# Altium schematic symbol library parts.SCHLIB: 122 symbols (part 1 of 2)
Pins are listed as number, name and electrical type; pins without a type are passive.

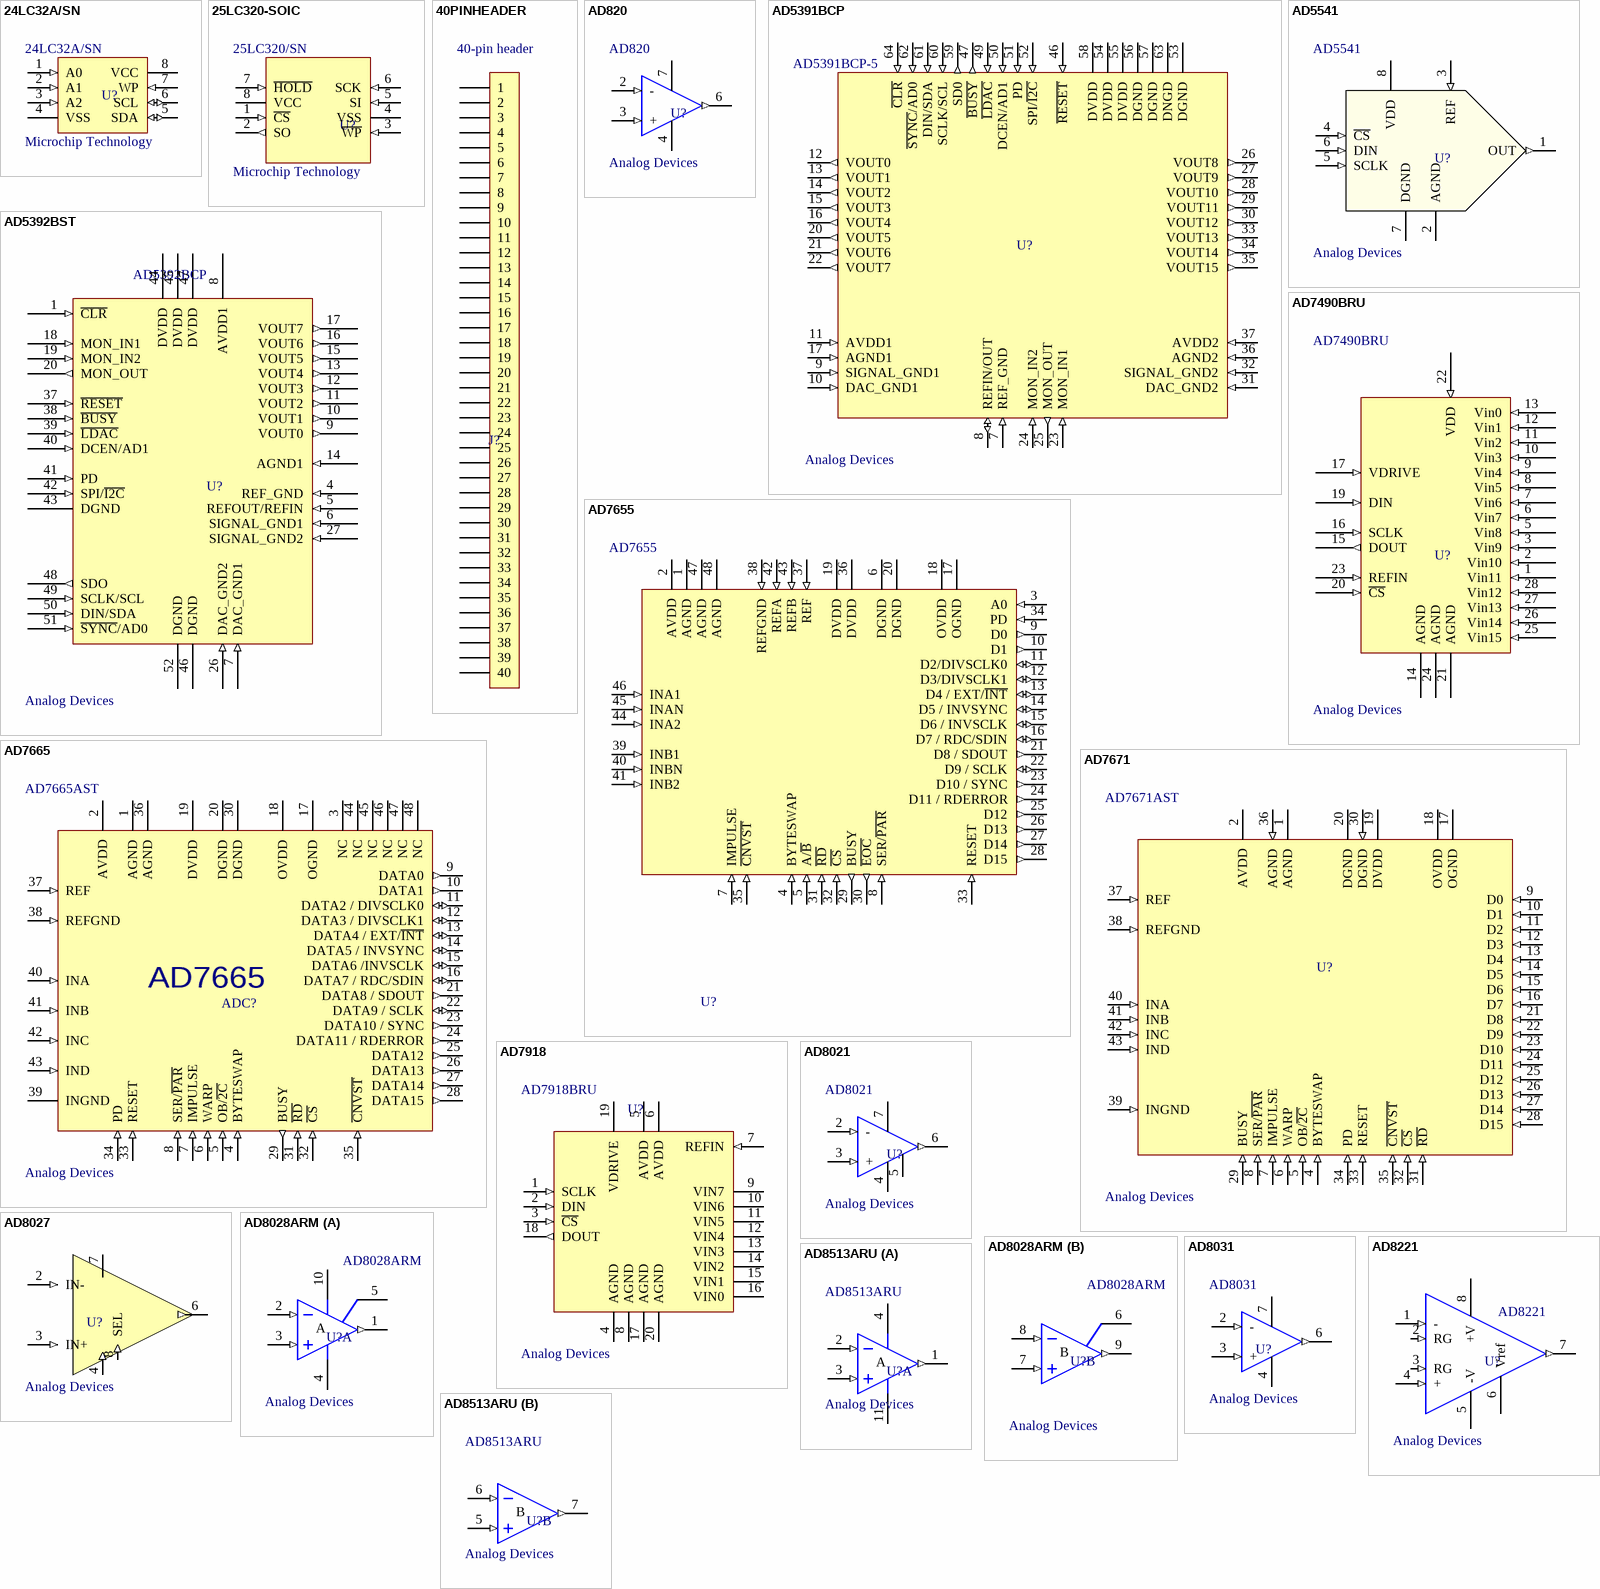
[diagram p0: symbols 24LC32A/SN to AD8513ARU]

## 24LC32A/SN
designator U?  Vendor: Microchip Technology
32K I2C Serial EEPROM
footprint SO-G8/E2.5
pins: 1 A0 (in), 2 A1 (in), 3 A2 (in), 4 VSS (power), 5 SDA (io), 6 SCL (io), 7 WP (in), 8 VCC (power)

## 25LC320-SOIC
designator U?, comment 25LC320/SN  Vendor: Microchip Technology
32k SPI Bus Serial EEPROM
footprint SO-G8/E2.9
pins: 1 ~{CS} (in), 2 SO (out), 3 ~{WP} (in), 4 VSS (power), 5 SI (in), 6 SCK (in), 7 ~{HOLD} (in), 8 VCC (power)

## 40PINHEADER
designator J?, comment 40-pin header
Simple 40pin connector
pins: 1, 2, 3, 4, 5, 6, 7, 8, 9, 10, 11, 12, 13, 14, 15, 16, 17, 18, 19, 20, 21, 22, 23, 24, 25, 26, 27, 28, 29, 30, 31, 32, 33, 34, 35, 36, 37, 38, 39, 40

## AD820
designator U?  Vendor: Analog Devices
Fet-input precision single-supply Rail-to-Rail IO Op-Amp
footprint SO-G8/X.6
pins: 2 - (in), 3 + (in), 4 -Vs (power), 6 Out (out), 7 +Vs (power)

## AD5391BCP
designator U?, comment AD5391BCP-5  Vendor: Analog Devices
12-bit 16-channel 5V Single-supply DAC with serial interface
footprint LFCSP-48 (Lead-Frame Chip Scale Package, 48 pin, from Analog Devices)
pins: 7 REF_GND (in), 8 REFIN/OUT (io), 9 SIGNAL_GND1 (in), 10 DAC_GND1 (in), 11 AVDD1 (in), 12 VOUT0 (out), 13 VOUT1 (out), 14 VOUT2 (out), 15 VOUT3 (out), 16 VOUT4 (out), 17 AGND1 (in), 20 VOUT5 (out), 21 VOUT6 (out), 22 VOUT7 (out), 23 MON_IN1 (in), 24 MON_IN2 (in), 25 MON_OUT (out), 26 VOUT8 (out), 27 VOUT9 (out), 28 VOUT10 (out), 29 VOUT11 (out), 30 VOUT12 (out), 31 DAC_GND2 (in), 32 SIGNAL_GND2 (in), 33 VOUT13 (out), 34 VOUT14 (out), 35 VOUT15 (out), 36 AGND2 (in), 37 AVDD2 (in), 46 ~{RESET} (in), 47 ~{BUSY} (out), 49 ~{LDAC} (in), 50 DCEN/AD1 (in), 51 PD (in), 52 SPI/~{I2C} (in), 53 DGND (power), 54 DVDD (power), 55 DVDD (power), 56 DGND (power), 57 DGND (power), 58 DVDD (power), 59 SD0 (out), 60 SCLK/SCL (in), 61 DIN/SDA (in), 62 ~{SYNC}/AD0 (in), 63 DNGD (power), 64 ~{CLR} (in)

## AD5392BST
designator U?, comment AD5392BCP  Vendor: Analog Devices
8-chan 14-BIT DAC
footprint QFP10x10-G52/Y1.6N
pins: 1 ~{CLR} (in), 4 REF_GND (in), 5 REFOUT/REFIN (in), 6 SIGNAL_GND1 (in), 7 DAC_GND1 (in), 8 AVDD1 (power), 9 VOUT0 (out), 10 VOUT1 (out), 11 VOUT2 (out), 12 VOUT3 (out), 13 VOUT4 (out), 14 AGND1 (in), 15 VOUT5 (out), 16 VOUT6 (out), 17 VOUT7 (out), 18 MON_IN1 (in), 19 MON_IN2 (in), 20 MON_OUT (out), 26 DAC_GND2 (in), 27 SIGNAL_GND2 (in), 37 ~{RESET} (in), 38 ~{BUSY} (in), 39 ~{LDAC} (in), 40 DCEN/AD1 (in), 41 PD (in), 42 SPI/~{I2C} (in), 43 DGND (power), 44 DVDD (power), 45 DVDD (power), 46 DGND (power), 47 DVDD (power), 48 SDO (out), 49 SCLK/SCL (in), 50 DIN/SDA (in), 51 ~{SYNC}/AD0 (in), 52 DGND (power)

## AD5541
designator U?  Vendor: Analog Devices
5V, Serial-Input, Voltage-Output 16-bit DAC\
footprint SO-G8/D5
pins: 1 OUT (out), 2 AGND (power), 3 REF (in), 4 ~{CS} (in), 5 SCLK (in), 6 DIN (in), 7 DGND (power), 8 VDD (power)

## AD7490BRU
designator U?  Vendor: Analog Devices
16-chan 12-bit ADC
footprint SSO-G28/X.45
pins: 1 Vin11 (in), 2 Vin10 (in), 3 Vin9 (in), 5 Vin8 (in), 6 Vin7 (in), 7 Vin6 (in), 8 Vin5 (in), 9 Vin4 (in), 10 Vin3 (in), 11 Vin2 (in), 12 Vin1 (in), 13 Vin0 (in), 14 AGND (power), 15 DOUT (out), 16 SCLK (in), 17 VDRIVE (in), 19 DIN (in), 20 ~{CS} (in), 21 AGND (power), 22 VDD (in), 23 REFIN (in), 24 AGND (power), 25 Vin15 (in), 26 Vin14 (in), 27 Vin13 (in), 28 Vin12 (in)

## AD7655
designator U?
4 Channel 1 MSPS 16-bit ADC; Vendor: Analog Devices
footprint F-QFP7X7-G48/X.3N
pins: 1 AGND (power), 2 AVDD (power), 3 A0 (in), 4 BYTESWAP (in), 5 A/~{B} (in), 6 DGND (power), 7 IMPULSE (in), 8 SER/~{PAR} (in), 9 D0 (out), 10 D1 (out), 11 D2/DIVSCLK0 (io), 12 D3/DIVSCLK1 (io), 13 D4 / EXT/~{INT} (io), 14 D5 / INVSYNC (io), 15 D6 / INVSCLK (io), 16 D7 / RDC/SDIN (io), 17 OGND (power), 18 OVDD (power), 19 DVDD (power), 20 DGND (power), 21 D8 / SDOUT (out), 22 D9 / SCLK (io), 23 D10 / SYNC (out), 24 D11 / RDERROR (out), 25 D12 (out), 26 D13 (out), 27 D14 (out), 28 D15 (out), 29 BUSY (out), 30 ~{EOC} (out), 31 ~{RD} (in), 32 ~{CS} (in), 33 RESET (in), 34 PD (in), 35 ~{CNVST} (in), 36 DVDD (power), 37 REF (in), 38 REFGND (in), 39 INB1 (in), 40 INBN (in), 41 INB2 (in), 42 REFA (in), 43 REFB (in), 44 INA2 (in), 45 INAN (in), 46 INA1 (in), 47 AGND (power), 48 AGND (power)

## AD7665
designator ADC?, comment AD7665AST  Vendor: Analog Devices
16-Bit, 560 kSPS CMOS ADC
footprint F-QFP7X7-G48/X.3N
pins: 1 AGND (power), 2 AVDD (power), 3 NC, 4 BYTESWAP (in), 5 OB/~{2C} (in), 6 WARP (in), 7 IMPULSE (in), 8 SER/~{PAR} (in), 9 DATA0 (out), 10 DATA1 (out), 11 DATA2 / DIVSCLK0 (io), 12 DATA3 / DIVSCLK1 (io), 13 DATA4 / EXT/~{INT} (io), 14 DATA5 / INVSYNC (io), 15 DATA6 /INVSCLK (io), 16 DATA7 / RDC/SDIN (io), 17 OGND (power), 18 OVDD (power), 19 DVDD (power), 20 DGND (power), 21 DATA8 / SDOUT (out), 22 DATA9 / SCLK (io), 23 DATA10 / SYNC (out), 24 DATA11 / RDERROR (out), 25 DATA12 (out), 26 DATA13 (out), 27 DATA14 (out), 28 DATA15 (out), 29 BUSY (out), 30 DGND (power), 31 ~{RD} (in), 32 ~{CS} (in), 33 RESET (in), 34 PD (in), 35 ~{CNVST} (in), 36 AGND (power), 37 REF (in), 38 REFGND (in), 39 INGND, 40 INA (in), 41 INB (in), 42 INC (in), 43 IND (in), 44 NC, 45 NC, 46 NC, 47 NC, 48 NC

## AD7671
designator U?, comment AD7671AST  Vendor: Analog Devices
16 bit 1 MSPS ADC
footprint F-QFP7X7-G48/N
pins: 1 AGND (power), 2 AVDD (power), 4 BYTESWAP (in), 5 OB/~{2C} (in), 6 WARP (in), 7 IMPULSE (in), 8 SER/~{PAR} (in), 9 D0 (in), 10 D1 (in), 11 D2 (in), 12 D3 (in), 13 D4 (in), 14 D5 (in), 15 D6 (in), 16 D7 (in), 17 OGND (power), 18 OVDD (power), 19 DVDD (power), 20 DGND (power), 21 D8 (in), 22 D9 (in), 23 D10 (in), 24 D11 (in), 25 D12 (in), 26 D13 (in), 27 D14 (in), 28 D15 (in), 29 BUSY (in), 30 DGND (in), 31 ~{RD} (in), 32 ~{CS} (in), 33 RESET (in), 34 PD (in), 35 ~{CNVST} (in), 36 AGND (in), 37 REF (in), 38 REFGND (in), 39 INGND (in), 40 INA (in), 41 INB (in), 42 INC (in), 43 IND (in)

## AD7918
designator U?, comment AD7918BRU  Vendor: Analog Devices
8-channel 1 MSPS 10-bit ADC
footprint TSSO6x6-G20/Y1.6
pins: 1 SCLK (in), 2 DIN (in), 3 ~{CS} (in), 4 AGND (power), 5 AVDD (power), 6 AVDD (power), 7 REFIN (in), 8 AGND (power), 9 VIN7 (power), 10 VIN6 (power), 11 VIN5 (power), 12 VIN4 (power), 13 VIN3 (power), 14 VIN2 (power), 15 VIN1 (power), 16 VIN0 (power), 17 AGND (power), 18 DOUT (out), 19 VDRIVE (power), 20 AGND (power)

## AD8021
designator U?  Vendor: Analog Devices
Low-noise, High-Speed Amp for 16-bit applications
footprint SO-G8/X.6
pins: 2 - (in), 3 + (in), 4 -Vs (power), 5 Ccomp, 6 Out (out), 7 +Vs (power)

## AD8027
designator U?, comment Vendor: Analog Devices  (hidden comment: AD8027AR)
Low Distortion, High Speed RRIO Amp
footprint SO-G8/D5
pins: 2 IN- (in), 3 IN+ (in), 4 -Vs (in), 6 Vout (out), 7 V+ (power), 8 SEL (in)

## AD8028ARM
designator U?  Vendor: Analog Devices
Low Distortion, High Speed RRIO OA
footprint TSSO3x5-G10
part A pins: 1 VOUTA (out), 2 IN-A (in), 3 IN+A (in), 4 V- (power), 5 SELA, 10 V+ (power)
part B pins: 6 SELB, 7 IN+B (in), 8 IN-B (in), 9 VOUTB (out)
part A text: A
part B text: B

## AD8031
designator U?  Vendor: Analog Devices
2.7 V, 800 uA, 80 MHz Rail-to-Rail I/O OpAmp
footprint SO-G8/X.6
pins: 2 - (in), 3 + (in), 4 -Vs (power), 6 Out (out), 7 +Vs (power)

## AD8221
designator U?  Vendor: Analog Devices
AD8221 Precision Instrumentation Amplifier
footprint SO-G8
pins: 1 - (in), 2 RG (in), 3 RG (in), 4 + (in), 5 -V (power), 6 Vref, 7 Vout (out), 8 +V (power)

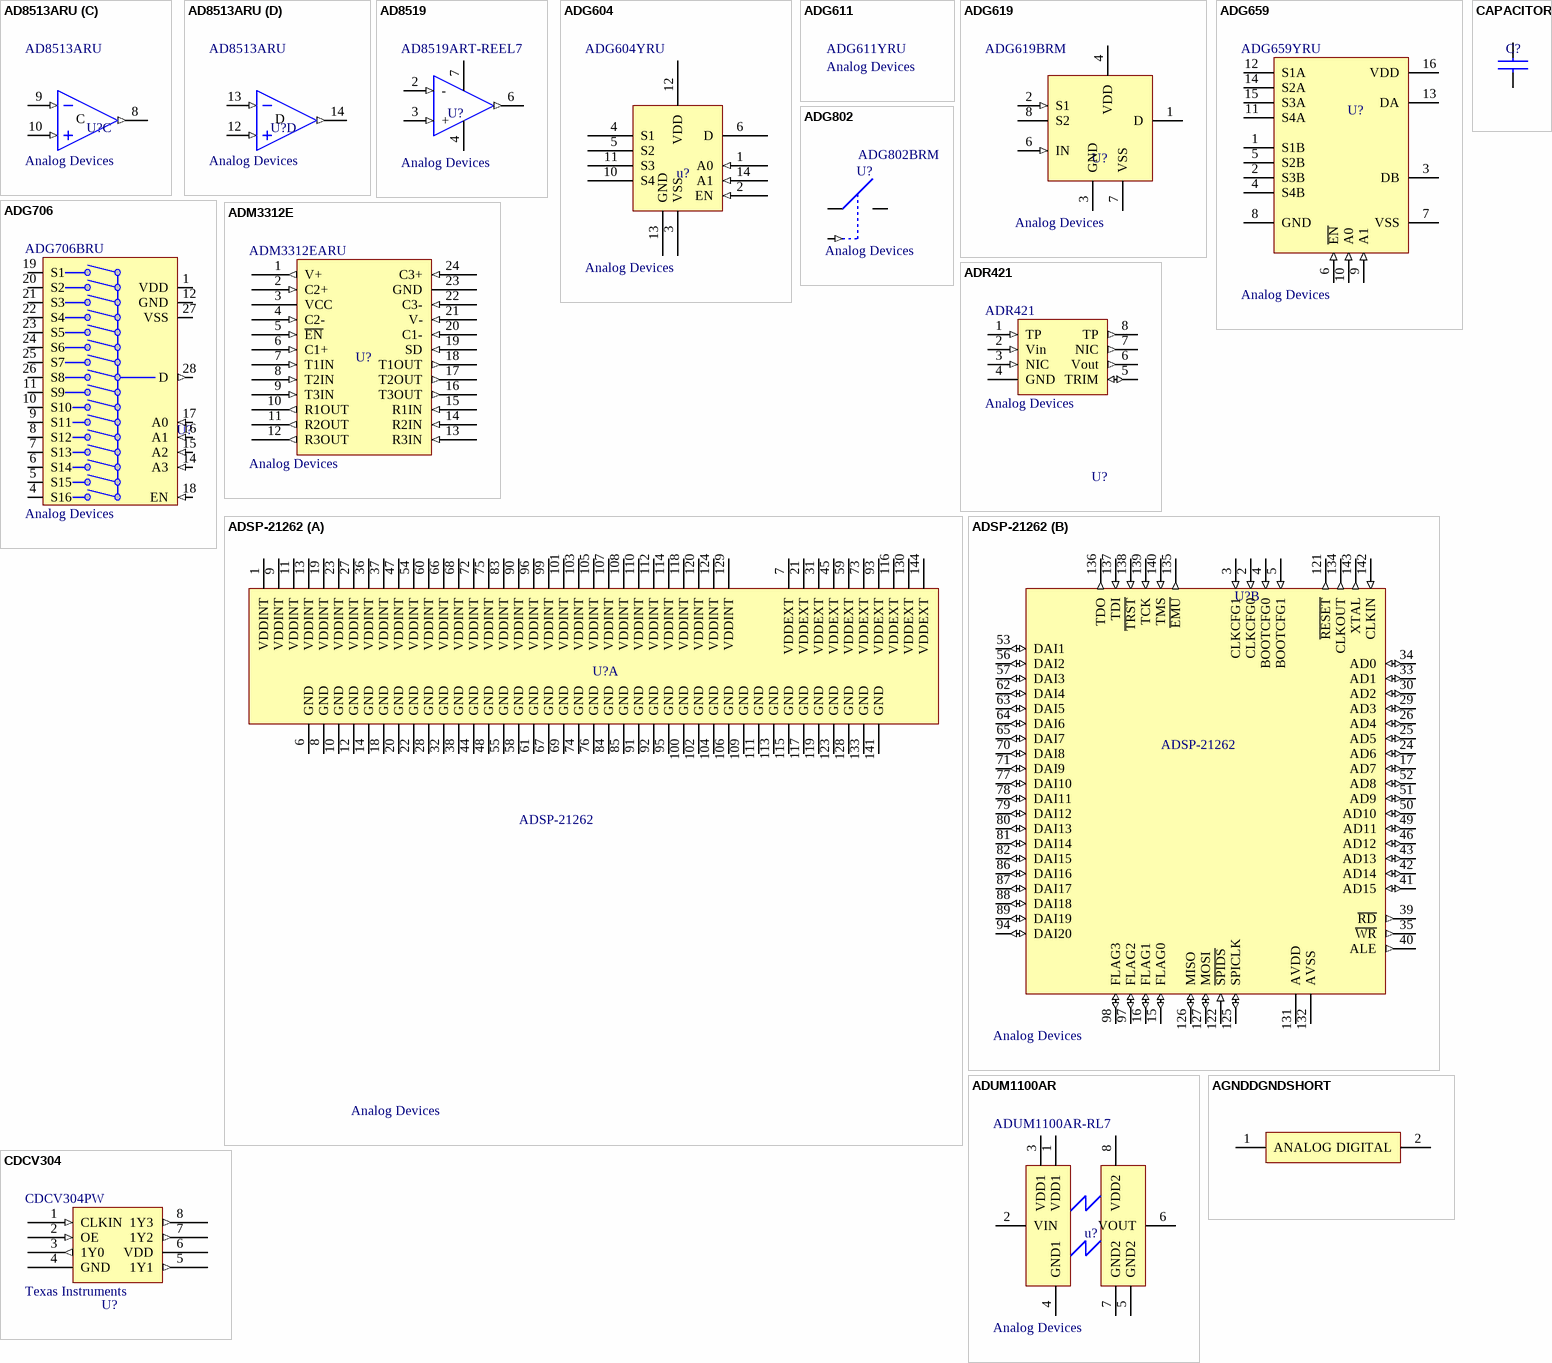
[diagram p1: symbols AD8513ARU to CDCV304]

## AD8513ARU
designator U?  Vendor: Analog Devices
low-noise JFET quad OA
footprint TSSO5X6-G14/X.3
footprint SO-G14
part A pins: 1 OUTA (out), 2 IN-A (in), 3 IN+A (in), 4 V+ (power), 11 V- (power)
part B pins: 5 IN+B (in), 6 IN-B (in), 7 OUTB (out)
part C pins: 8 OUTC (out), 9 IN-C (in), 10 IN+C (in)
part D pins: 12 IN+D (in), 13 IN-D (in), 14 OUTD (out)
part A text: A
part B text: B
part C text: C
part D text: D

## AD8519
designator U?, comment AD8519ART-REEL7  Vendor: Analog Devices
8 MHz RRIO Op-Amp
footprint SO-G8/X.6
pins: 2 - (in), 3 + (in), 4 -Vs (power), 6 Out (out), 7 +Vs (power)

## ADG604
designator u?, comment ADG604YRU  Vendor: Analog Devices
1 pC Charge Injection 100pA leakage CMOS 4-channel mux
footprint SSO-G14/X.4
pins: 1 A0 (in), 2 EN (in), 3 VSS (power), 4 S1, 5 S2, 6 D, 10 S4, 11 S3, 12 VDD (power), 13 GND (power), 14 A1 (in)

## ADG611
designator ?, comment ADG611YRU  Vendor: Analog Devices

## ADG619
designator U?, comment ADG619BRM  Vendors: Analog Devices
Low RON SPDT Switch (s2 normally on)
footprint MSOP8
pins: 1 D, 2 S1 (in), 3 GND (power), 4 VDD (power), 6 IN (in), 7 VSS (power), 8 S2

## ADG659
designator U?, comment ADG659YRU  Vendors: Analog Devices
4:1 Differential +/- 5V Mux
footprint TSSO5X6-G16
pins: 1 S1B, 2 S3B, 3 DB, 4 S4B, 5 S2B, 6 ~{EN} (in), 7 VSS (power), 8 GND (power), 9 A1 (in), 10 A0 (in), 11 S4A, 12 S1A, 13 DA, 14 S2A, 15 S3A, 16 VDD (power)

## ADG706
designator U?, comment ADG706BRU  Vendor: Analog Devices
1:16 Mux
footprint SSO-G28/X.45
pins: 1 VDD (power), 4 S16, 5 S15, 6 S14, 7 S13, 8 S12, 9 S11, 10 S10, 11 S9, 12 GND (power), 14 A3 (in), 15 A2 (in), 16 A1 (in), 17 A0 (in), 18 EN (in), 19 S1, 20 S2, 21 S3, 22 S4, 23 S5, 24 S6, 25 S7, 26 S8, 27 VSS (io), 28 D (out)

## ADG802
designator U?, comment ADG802BRM  Vendor: Analog Devices
Low Ron single-supply SPST NO mux.
footprint AD RM-8
pins: 1 D, 4 AVDD (power) hidden to AVDD, 6 IN (in), 7 GND (power) hidden to GND, 8 S

## ADM3312E
designator U?, comment ADM3312EARU  Vendor: Analog Devices
Serial port transceivers Serial Port RTX
footprint SSO-G24
pins: 1 V+ (out), 2 C2+ (in), 3 VCC (power), 4 C2- (in), 5 ~{EN} (in), 6 C1+ (in), 7 T1IN (in), 8 T2IN (in), 9 T3IN (in), 10 R1OUT (out), 11 R2OUT (out), 12 R3OUT (out), 13 R3IN (in), 14 R2IN (in), 15 R1IN (in), 16 T3OUT (out), 17 T2OUT (out), 18 T1OUT (out), 19 SD (in), 20 C1- (in), 21 V- (in), 22 C3- (in), 23 GND (power), 24 C3+ (in)

## ADR421
designator U?  Vendor: Analog Devices
Ultraprecision Low Noise 2.500 Voltage Reference
footprint SO-8
pins: 1 TP (in), 2 Vin (in), 3 NIC (in), 4 GND (power), 5 TRIM (io), 6 Vout (out), 7 NIC (out), 8 TP (out)

## ADSP-21262
designator U?  Vendor: Analog Devices
SHARC 200 MHz 32-bit floating-point SIMD DSP
footprint F-QFP20X20-G144/N
part A pins: 1 VDDINT (power), 6 GND (power), 7 VDDEXT (power), 8 GND (power), 9 VDDINT (power), 10 GND (power), 11 VDDINT (power), 12 GND (power), 13 VDDINT (power), 14 GND (power), 18 GND (power), 19 VDDINT (power), 20 GND (power), 21 VDDEXT (power), 22 GND (power), 23 VDDINT (power), 27 VDDINT (power), 28 GND (power), 31 VDDEXT (power), 32 GND (power), 36 VDDINT (power), 37 VDDINT (power), 38 GND (power), 44 GND (power), 45 VDDEXT (power), 47 VDDINT (power), 48 GND (power), 54 VDDINT (power), 55 GND (power), 58 GND (power), 59 VDDEXT (power), 60 VDDINT (power), 61 GND (power), 66 VDDINT (power), 67 GND (power), 68 VDDINT (power), 69 GND (power), 72 VDDINT (power), 73 VDDEXT (power), 74 GND (power), 75 VDDINT (power), 76 GND (power), 83 VDDINT (power), 84 GND (power), 85 GND (power), 90 VDDINT (power), 91 GND (power), 92 GND (power), 93 VDDEXT (power), 95 GND (power), 96 VDDINT (power), 99 VDDINT (power), 100 GND (power), 101 VDDINT (power), 102 GND (power), 103 VDDINT (power), 104 GND (power), 105 VDDINT (power), 106 GND (power), 107 VDDINT (power), 108 VDDINT (power), 109 GND (power), 110 VDDINT (power), 111 GND (power), 112 VDDINT (power), 113 GND (power), 114 VDDINT (power), 115 GND (power), 116 VDDEXT (power), 117 GND (power), 118 VDDINT (power), 119 GND (power), 120 VDDINT (power), 123 GND (power), 124 VDDINT (power), 128 GND (power), 129 VDDINT (power), 130 VDDEXT (power), 133 GND (power), 141 GND (power), 144 VDDEXT (power)
part B pins: 2 CLKCFG0 (in), 3 CLKCFG1 (in), 4 BOOTCFG0 (in), 5 BOOTCFG1 (in), 15 FLAG0 (io), 16 FLAG1 (io), 17 AD7 (io), 24 AD6 (io), 25 AD5 (io), 26 AD4 (io), 29 AD3 (io), 30 AD2 (io), 33 AD1 (io), 34 AD0 (io), 35 ~{WR} (out), 39 ~{RD} (out), 40 ALE (out), 41 AD15 (io), 42 AD14 (io), 43 AD13 (io), 46 AD12 (io), 49 AD11 (io), 50 AD10 (io), 51 AD9 (io), 52 AD8 (io), 53 DAI1 (io), 56 DAI2 (io), 57 DAI3 (io), 62 DAI4 (io), 63 DAI5 (io), 64 DAI6 (io), 65 DAI7 (io), 70 DAI8 (io), 71 DAI9 (io), 77 DAI10 (io), 78 DAI11 (io), 79 DAI12 (io), 80 DAI13 (io), 81 DAI14 (io), 82 DAI15 (io), 86 DAI16 (io), 87 DAI17 (io), 88 DAI18 (io), 89 DAI19 (io), 94 DAI20 (io), 97 FLAG2 (io), 98 FLAG3 (io), 121 ~{RESET} (out), 122 ~{SPIDS} (in), 125 SPICLK (io), 126 MISO (io), 127 MOSI (io), 131 AVDD (power), 132 AVSS (power), 134 CLKOUT (out), 135 ~{EMU} (out), 136 TDO (out), 137 TDI (in), 138 ~{TRST} (in), 139 TCK (in), 140 TMS (in), 142 CLKIN (in), 143 XTAL (out)

## ADUM1100AR
designator u?, comment ADUM1100AR-RL7  Vendor: Analog Devices
High Speed Digital Isolator
footprint S08
pins: 1 VDD1, 2 VIN, 3 VDD1, 4 GND1, 5 GND2, 6 VOUT, 7 GND2, 8 VDD2

## AGNDDGNDSHORT
designator ?
footprint AGNDDGNDSHORT
pins: 1 ANALOG (power), 2 DIGITAL (power)

## CAPACITOR
designator C?
Standard Capacitor; Type: X7R
footprint 0603 (Standard-sized 0603 Passive)
pins: 1, 2

## CDCV304
designator U?, comment CDCV304PW  Vendor: Texas Instruments
BB 4-output clock buffer IC
footprint SSO-G8/P.65
pins: 1 CLKIN (in), 2 OE (in), 3 1Y0 (out), 4 GND (power), 5 1Y1 (out), 6 VDD (power), 7 1Y2 (out), 8 1Y3 (out)

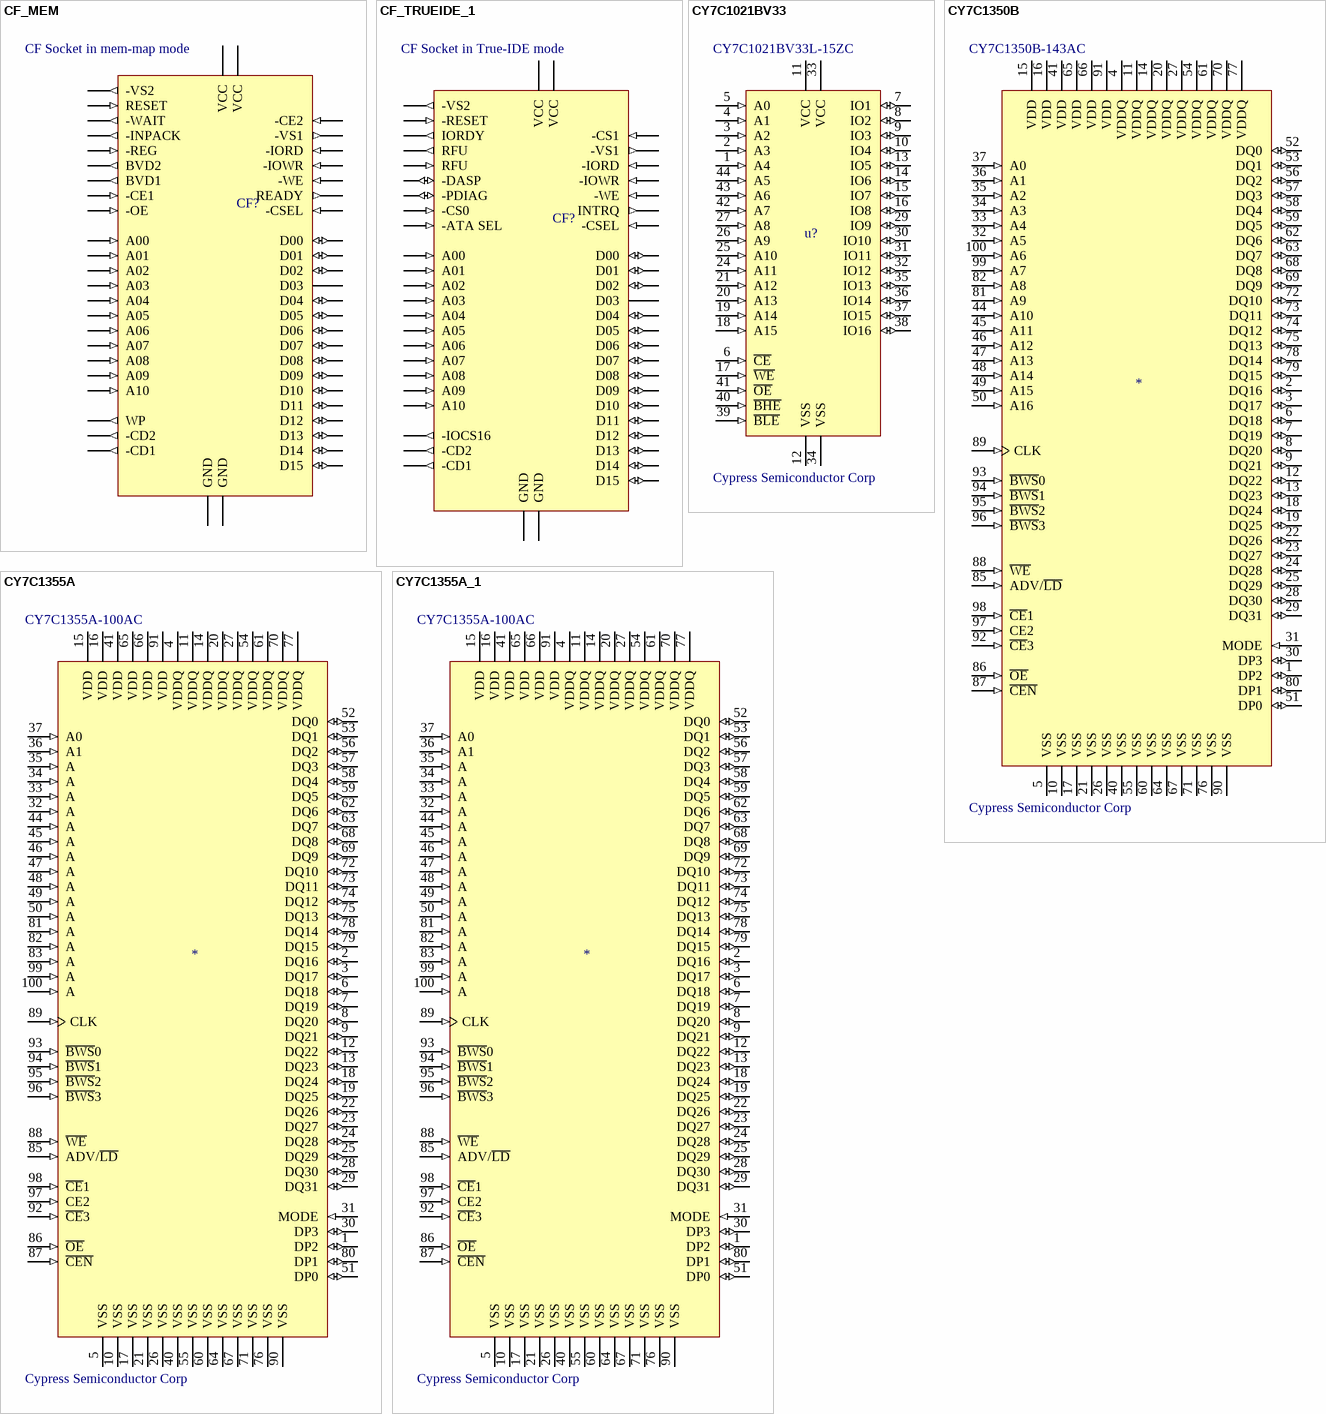
[diagram p2: symbols CF_MEM to CY7C1355A_1]

## CF_MEM
designator CF?, comment CF Socket in mem-map mode
CF socket in memory-mapped mode
pins: 1 GND (power), 2 D03 (power), 3 D04 (io), 4 D05 (io), 5 D06 (io), 6 D07 (io), 7 -CE1 (in), 8 A10 (in), 9 -OE (in), 10 A09 (in), 11 A08 (in), 12 A07 (in), 13 VCC (power), 14 A06 (in), 15 A05 (in), 16 A04 (in), 17 A03 (in), 18 A02 (in), 19 A01 (in), 20 A00 (in), 21 D00 (io), 22 D01 (io), 23 D02 (io), 24 WP (out), 25 -CD2 (out), 26 -CD1 (out), 27 D11 (io), 28 D12 (io), 29 D13 (io), 30 D14 (io), 31 D15 (io), 32 -CE2 (in), 33 -VS1 (out), 34 -IORD (in), 35 -IOWR (in), 36 -WE (in), 37 READY (out), 38 VCC (power), 39 -CSEL (in), 40 -VS2 (out), 41 RESET (in), 42 -WAIT (out), 43 -INPACK (out), 44 -REG (in), 45 BVD2 (out), 46 BVD1 (out), 47 D08 (io), 48 D09 (io), 49 D10 (io), 50 GND (power)

## CF_TRUEIDE_1
designator CF?, comment CF Socket in True-IDE mode
pins: 1 GND (power), 2 D03 (power), 3 D04 (io), 4 D05 (io), 5 D06 (io), 6 D07 (io), 7 -CS0 (in), 8 A10 (in), 9 -ATA SEL (in), 10 A09 (in), 11 A08 (in), 12 A07 (in), 13 VCC (power), 14 A06 (in), 15 A05 (in), 16 A04 (in), 17 A03 (in), 18 A02 (in), 19 A01 (in), 20 A00 (in), 21 D00 (io), 22 D01 (io), 23 D02 (io), 24 -IOCS16 (out), 25 -CD2 (out), 26 -CD1 (out), 27 D11 (io), 28 D12 (io), 29 D13 (io), 30 D14 (io), 31 D15 (io), 32 -CS1 (in), 33 -VS1 (out), 34 -IORD (in), 35 -IOWR (in), 36 -WE (in), 37 INTRQ (out), 38 VCC (power), 39 -CSEL (in), 40 -VS2 (out), 41 -RESET (in), 42 IORDY (out), 43 RFU (out), 44 RFU (in), 45 -DASP (io), 46 -PDIAG (io), 47 D08 (io), 48 D09 (io), 49 D10 (io), 50 GND (power)

## CY7C1021BV33
designator u?, comment CY7C1021BV33L-15ZC  Vendor: Cypress Semiconductor Corp
64kx16 SRAM 3.3V
footprint CYCTSOPII-44
pins: 1 A4 (in), 2 A3 (in), 3 A2 (in), 4 A1 (in), 5 A0 (in), 6 ~{CE} (in), 7 IO1 (io), 8 IO2 (io), 9 IO3 (io), 10 IO4 (io), 11 VCC (power), 12 VSS (power), 13 IO5 (io), 14 IO6 (io), 15 IO7 (io), 16 IO8 (io), 17 ~{WE} (in), 18 A15 (in), 19 A14 (in), 20 A13 (in), 21 A12 (in), 24 A11 (in), 25 A10 (in), 26 A9 (in), 27 A8 (in), 29 IO9 (io), 30 IO10 (io), 31 IO11 (io), 32 IO12 (io), 33 VCC (power), 34 VSS (power), 35 IO13 (io), 36 IO14 (io), 37 IO15 (io), 38 IO16 (io), 39 ~{BLE} (in), 40 ~{BHE} (in), 41 ~{OE} (in), 42 A7 (in), 43 A6 (in), 44 A5 (in)

## CY7C1350B
designator *, comment CY7C1350B-143AC  Vendor: Cypress Semiconductor Corp
NoBL Pipelined SRAM 128kx36
footprint R-QFP14x20-G100/N
pins: 1 DP2 (io), 2 DQ16 (io), 3 DQ17 (io), 4 VDDQ (power), 5 VSS (power), 6 DQ18 (io), 7 DQ19 (io), 8 DQ20 (io), 9 DQ21 (io), 10 VSS (power), 11 VDDQ (power), 12 DQ22 (io), 13 DQ23 (io), 14 VDDQ (power), 15 VDD (power), 16 VDD (power), 17 VSS (power), 18 DQ24 (io), 19 DQ25 (io), 20 VDDQ (power), 21 VSS (power), 22 DQ26 (io), 23 DQ27 (io), 24 DQ28 (io), 25 DQ29 (io), 26 VSS (power), 27 VDDQ (power), 28 DQ30 (io), 29 DQ31 (io), 30 DP3 (io), 31 MODE (in), 32 A5 (in), 33 A4 (in), 34 A3 (in), 35 A2 (in), 36 A1 (in), 37 A0 (in), 40 VSS (power), 41 VDD (power), 44 A10 (in), 45 A11 (in), 46 A12 (in), 47 A13 (in), 48 A14 (in), 49 A15 (in), 50 A16 (in), 51 DP0 (io), 52 DQ0 (io), 53 DQ1 (io), 54 VDDQ (power), 55 VSS (power), 56 DQ2 (io), 57 DQ3 (io), 58 DQ4 (io), 59 DQ5 (io), 60 VSS (power), 61 VDDQ (power), 62 DQ6 (io), 63 DQ7 (io), 64 VSS (power), 65 VDD (power), 66 VDD (power), 67 VSS (power), 68 DQ8 (io), 69 DQ9 (io), 70 VDDQ (power), 71 VSS (power), 72 DQ10 (io), 73 DQ11 (io), 74 DQ12 (io), 75 DQ13 (io), 76 VSS (power), 77 VDDQ (power), 78 DQ14 (io), 79 DQ15 (io), 80 DP1 (io), 81 A9 (in), 82 A8 (in), 85 ADV/~{LD} (in), 86 ~{OE} (in), 87 ~{CEN} (in), 88 ~{WE} (in), 89 CLK (in), 90 VSS (power), 91 VDD (power), 92 ~{CE}3 (in), 93 ~{BWS}0 (in), 94 ~{BWS}1 (in), 95 ~{BWS}2 (in), 96 ~{BWS}3 (in), 97 CE2 (in), 98 ~{CE}1 (in), 99 A7 (in), 100 A6 (in)

## CY7C1355A
designator *, comment CY7C1355A-100AC  Vendor: Cypress Semiconductor Corp
NoBL Pipelined SRAM 256kx36
footprint R-QFP14x20-G100/N
pins: 1 DP2 (io), 2 DQ16 (io), 3 DQ17 (io), 4 VDDQ (power), 5 VSS (power), 6 DQ18 (io), 7 DQ19 (io), 8 DQ20 (io), 9 DQ21 (io), 10 VSS (power), 11 VDDQ (power), 12 DQ22 (io), 13 DQ23 (io), 14 VDDQ (power), 15 VDD (power), 16 VDD (power), 17 VSS (power), 18 DQ24 (io), 19 DQ25 (io), 20 VDDQ (power), 21 VSS (power), 22 DQ26 (io), 23 DQ27 (io), 24 DQ28 (io), 25 DQ29 (io), 26 VSS (power), 27 VDDQ (power), 28 DQ30 (io), 29 DQ31 (io), 30 DP3 (io), 31 MODE (in), 32 A (in), 33 A (in), 34 A (in), 35 A (in), 36 A1 (in), 37 A0 (in), 40 VSS (power), 41 VDD (power), 44 A (in), 45 A (in), 46 A (in), 47 A (in), 48 A (in), 49 A (in), 50 A (in), 51 DP0 (io), 52 DQ0 (io), 53 DQ1 (io), 54 VDDQ (power), 55 VSS (power), 56 DQ2 (io), 57 DQ3 (io), 58 DQ4 (io), 59 DQ5 (io), 60 VSS (power), 61 VDDQ (power), 62 DQ6 (io), 63 DQ7 (io), 64 VSS (power), 65 VDD (power), 66 VDD (power), 67 VSS (power), 68 DQ8 (io), 69 DQ9 (io), 70 VDDQ (power), 71 VSS (power), 72 DQ10 (io), 73 DQ11 (io), 74 DQ12 (io), 75 DQ13 (io), 76 VSS (power), 77 VDDQ (power), 78 DQ14 (io), 79 DQ15 (io), 80 DP1 (io), 81 A (in), 82 A (in), 83 A (in), 85 ADV/~{LD} (in), 86 ~{OE} (in), 87 ~{CEN} (in), 88 ~{WE} (in), 89 CLK (in), 90 VSS (power), 91 VDD (power), 92 ~{CE}3 (in), 93 ~{BWS}0 (in), 94 ~{BWS}1 (in), 95 ~{BWS}2 (in), 96 ~{BWS}3 (in), 97 CE2 (in), 98 ~{CE}1 (in), 99 A (in), 100 A (in)

## CY7C1355A_1
designator *, comment CY7C1355A-100AC  Vendor: Cypress Semiconductor Corp
NoBL Pipelined SRAM 256kx36
footprint R-QFP14x20-G100/N
pins: 1 DP2 (io), 2 DQ16 (io), 3 DQ17 (io), 4 VDDQ (power), 5 VSS (power), 6 DQ18 (io), 7 DQ19 (io), 8 DQ20 (io), 9 DQ21 (io), 10 VSS (power), 11 VDDQ (power), 12 DQ22 (io), 13 DQ23 (io), 14 VDDQ (power), 15 VDD (power), 16 VDD (power), 17 VSS (power), 18 DQ24 (io), 19 DQ25 (io), 20 VDDQ (power), 21 VSS (power), 22 DQ26 (io), 23 DQ27 (io), 24 DQ28 (io), 25 DQ29 (io), 26 VSS (power), 27 VDDQ (power), 28 DQ30 (io), 29 DQ31 (io), 30 DP3 (io), 31 MODE (in), 32 A (in), 33 A (in), 34 A (in), 35 A (in), 36 A1 (in), 37 A0 (in), 40 VSS (power), 41 VDD (power), 44 A (in), 45 A (in), 46 A (in), 47 A (in), 48 A (in), 49 A (in), 50 A (in), 51 DP0 (io), 52 DQ0 (io), 53 DQ1 (io), 54 VDDQ (power), 55 VSS (power), 56 DQ2 (io), 57 DQ3 (io), 58 DQ4 (io), 59 DQ5 (io), 60 VSS (power), 61 VDDQ (power), 62 DQ6 (io), 63 DQ7 (io), 64 VSS (power), 65 VDD (power), 66 VDD (power), 67 VSS (power), 68 DQ8 (io), 69 DQ9 (io), 70 VDDQ (power), 71 VSS (power), 72 DQ10 (io), 73 DQ11 (io), 74 DQ12 (io), 75 DQ13 (io), 76 VSS (power), 77 VDDQ (power), 78 DQ14 (io), 79 DQ15 (io), 80 DP1 (io), 81 A (in), 82 A (in), 83 A (in), 85 ADV/~{LD} (in), 86 ~{OE} (in), 87 ~{CEN} (in), 88 ~{WE} (in), 89 CLK (in), 90 VSS (power), 91 VDD (power), 92 ~{CE}3 (in), 93 ~{BWS}0 (in), 94 ~{BWS}1 (in), 95 ~{BWS}2 (in), 96 ~{BWS}3 (in), 97 CE2 (in), 98 ~{CE}1 (in), 99 A (in), 100 A (in)

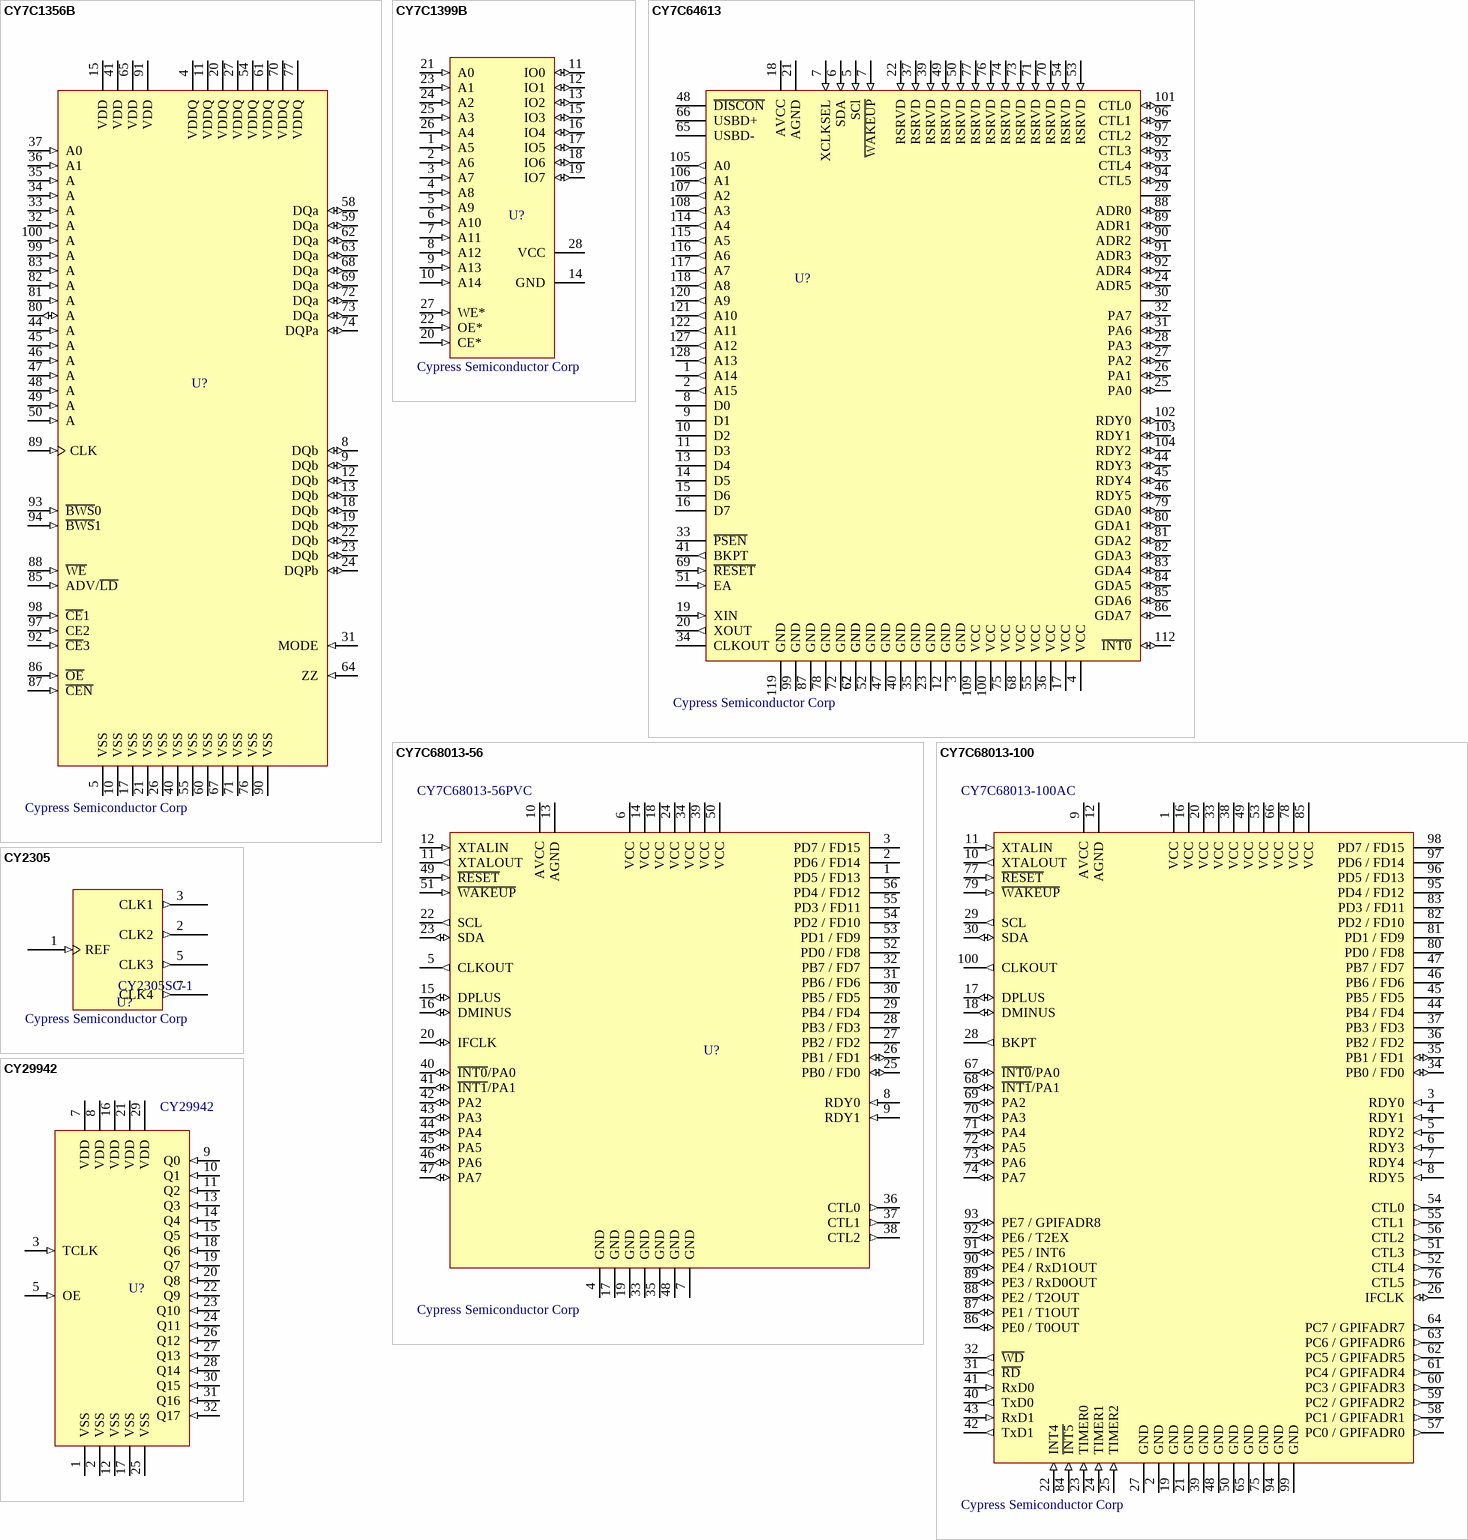
[diagram p3: symbols CY7C1356B to CY29942]

## CY7C1356B
designator U?  Vendor: Cypress Semiconductor Corp
NoBL Pipelined SRAM 512kx18
footprint R-QFP14x20-G100/N
pins: 4 VDDQ (power), 5 VSS (power), 8 DQb (io), 9 DQb (io), 10 VSS (power), 11 VDDQ (power), 12 DQb (io), 13 DQb (io), 15 VDD (power), 17 VSS (power), 18 DQb (io), 19 DQb (io), 20 VDDQ (power), 21 VSS (power), 22 DQb (io), 23 DQb (io), 24 DQPb (io), 26 VSS (power), 27 VDDQ (power), 31 MODE (in), 32 A (in), 33 A (in), 34 A (in), 35 A (in), 36 A1 (in), 37 A0 (in), 40 VSS (power), 41 VDD (power), 44 A (in), 45 A (in), 46 A (in), 47 A (in), 48 A (in), 49 A (in), 50 A (in), 54 VDDQ (power), 55 VSS (power), 58 DQa (io), 59 DQa (io), 60 VSS (power), 61 VDDQ (power), 62 DQa (io), 63 DQa (io), 64 ZZ (in), 65 VDD (power), 67 VSS (power), 68 DQa (io), 69 DQa (io), 70 VDDQ (power), 71 VSS (power), 72 DQa (io), 73 DQa (io), 74 DQPa (io), 76 VSS (power), 77 VDDQ (power), 80 A (io), 81 A (in), 82 A (in), 83 A (in), 85 ADV/~{LD} (in), 86 ~{OE} (in), 87 ~{CEN} (in), 88 ~{WE} (in), 89 CLK (in), 90 VSS (power), 91 VDD (power), 92 ~{CE}3 (in), 93 ~{BWS}0 (in), 94 ~{BWS}1 (in), 97 CE2 (in), 98 ~{CE}1 (in), 99 A (in), 100 A (in)

## CY7C1399B
designator U?  Vendor: Cypress Semiconductor Corp
32K x 8 3.3V SRAM
footprint TSSO8X13-G28
pins: 1 A5 (in), 2 A6 (in), 3 A7 (in), 4 A8 (in), 5 A9 (in), 6 A10 (in), 7 A11 (in), 8 A12 (in), 9 A13 (in), 10 A14 (in), 11 IO0 (io), 12 IO1 (io), 13 IO2 (io), 14 GND (power), 15 IO3 (io), 16 IO4 (io), 17 IO5 (io), 18 IO6 (io), 19 IO7 (io), 20 CE* (in), 21 A0 (in), 22 OE* (in), 23 A1 (in), 24 A2 (in), 25 A3 (in), 26 A4 (in), 27 WE* (in), 28 VCC (power)

## CY7C64613
designator U?  Vendor: Cypress Semiconductor Corp
USB device
footprint PQFP128RECT
pins: 1 A14 (out), 2 A15 (out), 3 GND (power), 4 VCC (power), 5 SCl (in), 6 SDA (in), 7 ~{WAKEUP} (in), 7 XCLKSEL (in), 8 D0 (hiz), 9 D1 (hiz), 10 D2 (hiz), 11 D3 (hiz), 12 GND (power), 13 D4 (hiz), 14 D5 (hiz), 15 D6 (hiz), 16 D7 (hiz), 17 VCC (power), 18 AVCC (power), 19 XIN (in), 20 XOUT (out), 21 AGND (power), 22 RSRVD (in), 23 GND (power), 24 ADR5 (io), 25 PA0 (io), 26 PA1 (io), 27 PA2 (io), 28 PA3 (io), 29 (power), 30 (power), 31 PA6 (io), 32 PA7 (io), 33 ~{PSEN} (oe), 34 CLKOUT (hiz), 35 GND (power), 36 VCC (power), 37 RSRVD (in), 39 RSRVD (in), 40 GND (power), 41 BKPT (out), 44 RDY3 (io), 45 RDY4 (io), 46 RDY5 (io), 47 GND (power), 48 ~{DISCON} (hiz), 49 RSRVD (in), 50 RSRVD (in), 51 EA (in), 52 GND (power), 53 RSRVD (in), 54 RSRVD (in), 55 VCC (power), 62 GND (power), 65 USBD- (hiz), 66 USBD+ (hiz), 67 GND (power), 68 VCC (power), 69 ~{RESET} (in), 70 RSRVD (in), 71 RSRVD (in), 72 GND (power), 73 RSRVD (in), 74 RSRVD (in), 75 VCC (power), 76 RSRVD (in), 77 RSRVD (in), 78 GND (power), 79 GDA0 (io), 80 GDA1 (io), 81 GDA2 (io), 82 GDA3 (io), 83 GDA4 (io), 84 GDA5 (io), 85 GDA6 (io), 86 GDA7 (io), 87 GND (power), 88 ADR0 (io), 89 ADR1 (io), 90 ADR2 (io), 91 ADR3 (io), 92 CTL3 (io), 92 ADR4 (io), 93 CTL4 (io), 94 CTL5 (io), 96 CTL1 (io), 97 CTL2 (io), 99 GND (power), 100 VCC (power), 101 CTL0 (io), 102 RDY0 (io), 103 RDY1 (io), 104 RDY2 (io), 105 A0 (out), 106 A1 (out), 107 A2 (out), 108 A3 (out), 109 VCC (power), 112 ~{INT0} (io), 114 A4 (out), 115 A5 (out), 116 A6 (out), 117 A7 (out), 118 A8 (out), 119 GND (power), 120 A9 (out), 121 A10 (out), 122 A11 (out), 127 A12 (out), 128 A13 (out)

## CY7C68013-56
designator U?, comment CY7C68013-56PVC  Vendor: Cypress Semiconductor Corp
EZ-USB FX2
footprint SOP56FX2
pins: 1 PD5 / FD13, 2 PD6 / FD14, 3 PD7 / FD15, 4 GND (power), 5 CLKOUT (out), 6 VCC (power), 7 GND (power), 8 RDY0 (in), 9 RDY1 (in), 10 AVCC (power), 11 XTALOUT (out), 12 XTALIN (in), 13 AGND (power), 14 VCC (power), 15 DPLUS (io), 16 DMINUS (io), 17 GND (power), 18 VCC (power), 19 GND (power), 20 IFCLK (io), 22 SCL (out), 23 SDA (io), 24 VCC (power), 25 PB0 / FD0 (io), 26 PB1 / FD1 (io), 27 PB2 / FD2, 28 PB3 / FD3, 29 PB4 / FD4, 30 PB5 / FD5, 31 PB6 / FD6, 32 PB7 / FD7, 33 GND (power), 34 VCC (power), 35 GND (power), 36 CTL0 (out), 37 CTL1 (out), 38 CTL2 (out), 39 VCC (power), 40 ~{INT0}/PA0 (io), 41 ~{INT1}/PA1 (io), 42 PA2 (io), 43 PA3 (io), 44 PA4 (io), 45 PA5 (io), 46 PA6 (io), 47 PA7 (io), 48 GND (power), 49 ~{RESET} (in), 50 VCC (power), 51 ~{WAKEUP} (in), 52 PD0 / FD8, 53 PD1 / FD9, 54 PD2 / FD10, 55 PD3 / FD11, 56 PD4 / FD12

## CY7C68013-100
designator ?, comment CY7C68013-100AC  Vendor: Cypress Semiconductor Corp
pins: 1 VCC (power), 2 GND (power), 3 RDY0 (in), 4 RDY1 (in), 5 RDY2 (in), 6 RDY3 (in), 7 RDY4 (in), 8 RDY5 (in), 9 AVCC (power), 10 XTALOUT (out), 11 XTALIN (in), 12 AGND (power), 16 VCC (power), 17 DPLUS (io), 18 DMINUS (io), 19 GND (power), 20 VCC (power), 21 GND (power), 22 INT4 (in), 23 TIMER0 (in), 24 TIMER1 (in), 25 TIMER2 (in), 26 IFCLK (io), 27 GND (power), 28 BKPT (out), 29 SCL (out), 30 SDA (io), 31 ~{RD} (out), 32 ~{WD} (out), 33 VCC (power), 34 PB0 / FD0 (io), 35 PB1 / FD1 (io), 36 PB2 / FD2, 37 PB3 / FD3, 38 VCC (power), 39 GND (power), 40 TxD0 (out), 41 RxD0 (in), 42 TxD1 (out), 43 RxD1 (in), 44 PB4 / FD4, 45 PB5 / FD5, 46 PB6 / FD6, 47 PB7 / FD7, 48 GND (power), 49 VCC (power), 50 GND (power), 51 CTL3 (out), 52 CTL4 (out), 53 VCC (power), 54 CTL0 (out), 55 CTL1 (out), 56 CTL2 (out), 57 PC0 / GPIFADR0 (out), 58 PC1 / GPIFADR1 (out), 59 PC2 / GPIFADR2 (out), 60 PC3 / GPIFADR3 (out), 61 PC4 / GPIFADR4 (out), 62 PC5 / GPIFADR5 (out), 63 PC6 / GPIFADR6 (out), 64 PC7 / GPIFADR7 (out), 65 GND (power), 66 VCC (power), 67 ~{INT0}/PA0 (io), 68 ~{INT1}/PA1 (io), 69 PA2 (io), 70 PA3 (io), 71 PA4 (io), 72 PA5 (io), 73 PA6 (io), 74 PA7 (io), 75 GND (power), 76 CTL5 (out), 77 ~{RESET} (in), 78 VCC (power), 79 ~{WAKEUP} (in), 80 PD0 / FD8, 81 PD1 / FD9, 82 PD2 / FD10, 83 PD3 / FD11, 84 ~{INT5} (in), 85 VCC (power), 86 PE0 / T0OUT (io), 87 PE1 / T1OUT (io), 88 PE2 / T2OUT (io), 89 PE3 / RxD0OUT (io), 90 PE4 / RxD1OUT (io), 91 PE5 / INT6 (io), 92 PE6 / T2EX (io), 93 PE7 / GPIFADR8 (io), 94 GND (power), 95 PD4 / FD12, 96 PD5 / FD13, 97 PD6 / FD14, 98 PD7 / FD15, 99 GND (power), 100 CLKOUT (out)

## CY2305
designator U?, comment CY2305SC-1  Vendor: Cypress Semiconductor Corp
Low-cost 3.3 V zero-delay buffer
footprint SO-G8
pins: 1 REF (in), 2 CLK2 (out), 3 CLK1 (out), 4 GND (power) hidden to GND, 5 CLK3 (out), 6 VCC (power) hidden to VCC, 7 CLK4 (out)

## CY29942
designator U?
LVTTL 1:18 clock distribution IC
footprint QFP7X7-G32/N
pins: 1 VSS (power), 2 VSS (power), 3 TCLK (in), 5 OE (in), 7 VDD (power), 8 VDD (power), 9 Q0 (in), 10 Q1 (in), 11 Q2 (in), 12 VSS (power), 13 Q3 (in), 14 Q4 (in), 15 Q5 (in), 16 VDD (power), 17 VSS (power), 18 Q6 (in), 19 Q7 (in), 20 Q8 (in), 21 VDD (power), 22 Q9 (in), 23 Q10 (in), 24 Q11 (in), 25 VSS (power), 26 Q12 (in), 27 Q13 (in), 28 Q14 (in), 29 VDD (power), 30 Q15 (in), 31 Q16 (in), 32 Q17 (in)

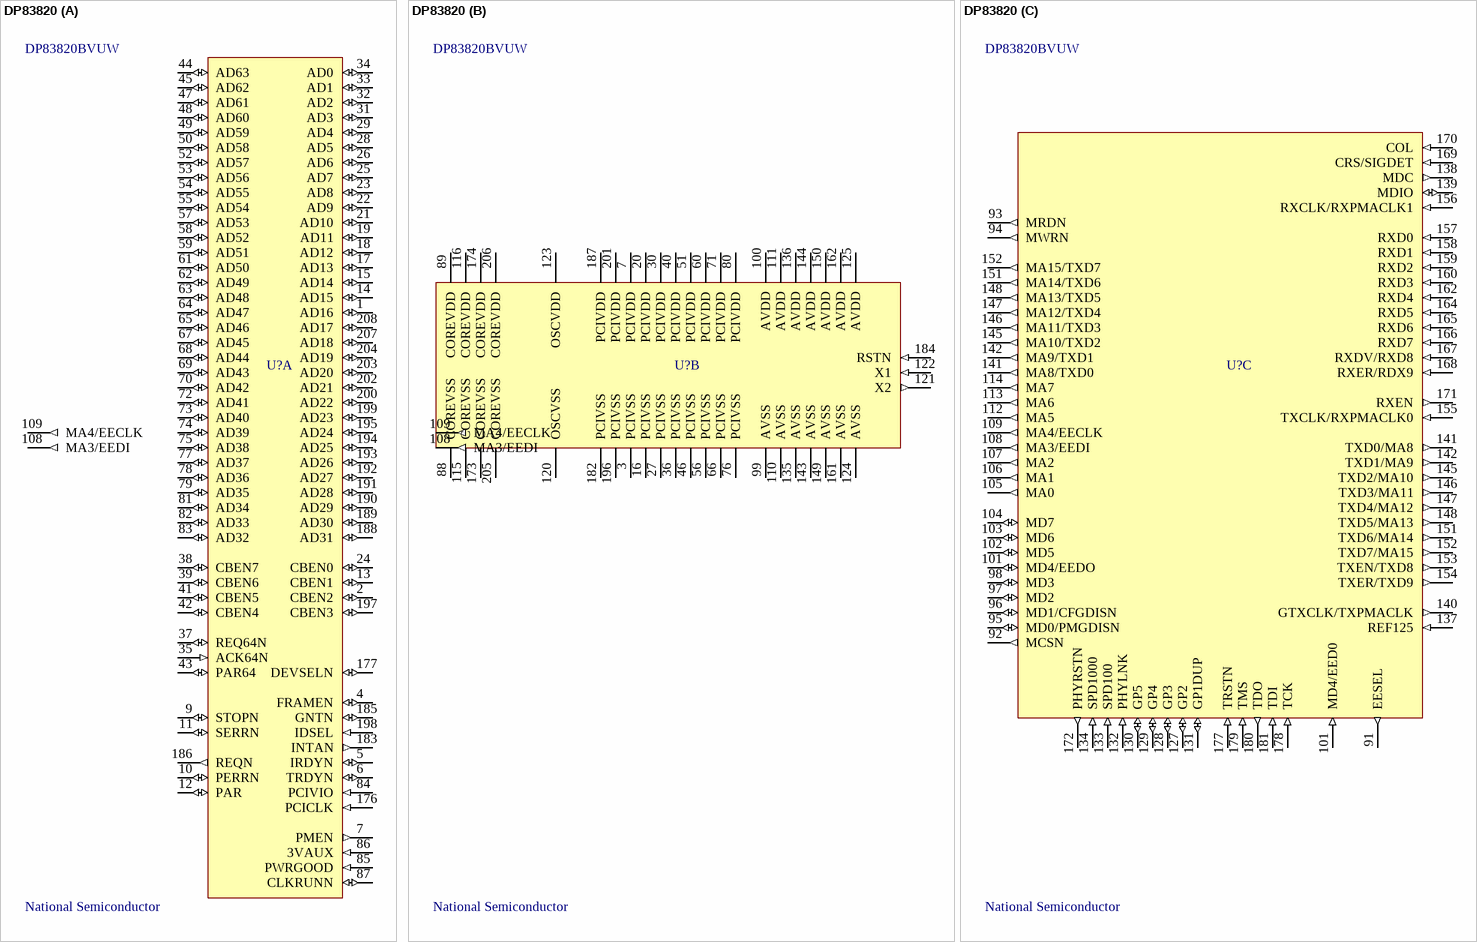
[diagram p4: symbol DP83820]

## DP83820
designator U?, comment DP83820BVUW  Vendor: National Semiconductor
PCI-based 10/100/1000 MAC
footprint F-QFP28X28-G208/Z32N
pins on every part: 108 MA3/EEDI (out), 109 MA4/EECLK (out)
part A pins: 1 AD16 (io), 2 CBEN2 (io), 4 FRAMEN (io), 5 IRDYN (io), 6 TRDYN (io), 7 PMEN (out), 9 STOPN (io), 10 PERRN (io), 11 SERRN (io), 12 PAR (io), 13 CBEN1 (io), 14 AD15 (io), 15 AD14 (io), 17 AD13 (io), 18 AD12 (io), 19 AD11 (io), 21 AD10 (io), 22 AD9 (io), 23 AD8 (io), 24 CBEN0 (io), 25 AD7 (io), 26 AD6 (io), 28 AD5 (io), 29 AD4 (io), 31 AD3 (io), 32 AD2 (io), 33 AD1 (io), 34 AD0 (io), 35 ACK64N (in), 37 REQ64N (io), 38 CBEN7 (io), 39 CBEN6 (io), 41 CBEN5 (io), 42 CBEN4 (io), 43 PAR64 (io), 44 AD63 (io), 45 AD62 (io), 47 AD61 (io), 48 AD60 (io), 49 AD59 (io), 50 AD58 (io), 52 AD57 (io), 53 AD56 (io), 54 AD55 (io), 55 AD54 (io), 57 AD53 (io), 58 AD52 (io), 59 AD51 (io), 61 AD50 (io), 62 AD49 (io), 63 AD48 (io), 64 AD47 (io), 65 AD46 (io), 67 AD45 (io), 68 AD44 (io), 69 AD43 (io), 70 AD42 (io), 72 AD41 (io), 73 AD40 (io), 74 AD39 (io), 75 AD38 (io), 77 AD37 (io), 78 AD36 (io), 79 AD35 (io), 81 AD34 (io), 82 AD33 (io), 83 AD32 (io), 84 PCIVIO (in), 85 PWRGOOD (in), 86 3VAUX (in), 87 CLKRUNN (io), 176 PCICLK (in), 177 DEVSELN (io), 183 INTAN (out), 185 GNTN (io), 186 REQN (out), 188 AD31 (io), 189 AD30 (io), 190 AD29 (io), 191 AD28 (io), 192 AD27 (io), 193 AD26 (io), 194 AD25 (io), 195 AD24 (io), 197 CBEN3 (io), 198 IDSEL (in), 199 AD23 (io), 200 AD22 (io), 202 AD21 (io), 203 AD20 (io), 204 AD19 (io), 207 AD18 (io), 208 AD17 (io)
part B pins: 3 PCIVSS (power), 7 PCIVDD (power), 16 PCIVSS (power), 20 PCIVDD (power), 27 PCIVSS (power), 30 PCIVDD (power), 36 PCIVSS (power), 40 PCIVDD (power), 46 PCIVSS (power), 51 PCIVDD (power), 56 PCIVSS (power), 60 PCIVDD (power), 66 PCIVSS (power), 71 PCIVDD (power), 76 PCIVSS (power), 80 PCIVDD (power), 88 COREVSS (power), 89 COREVDD (power), 99 AVSS (power), 100 AVDD (power), 110 AVSS (power), 111 AVDD (power), 115 COREVSS (power), 116 COREVDD (power), 120 OSCVSS (power), 121 X2 (out), 122 X1 (in), 123 OSCVDD (power), 124 AVSS (power), 125 AVDD (power), 135 AVSS (power), 136 AVDD (power), 143 AVSS (power), 144 AVDD (power), 149 AVSS (power), 150 AVDD (power), 161 AVSS (power), 162 AVDD (power), 173 COREVSS (power), 174 COREVDD (power), 182 PCIVSS (power), 184 RSTN (in), 187 PCIVDD (power), 196 PCIVSS (power), 201 PCIVDD (power), 205 COREVSS (power), 206 COREVDD (power)
part C pins: 91 EESEL (out), 92 MCSN (out), 93 MRDN (out), 94 MWRN (out), 95 MD0/PMGDISN (io), 96 MD1/CFGDISN (io), 97 MD2 (io), 98 MD3 (io), 101 MD4/EEDO (io), 101 MD4/EED0 (in), 102 MD5 (io), 103 MD6 (io), 104 MD7 (io), 105 MA0 (out), 106 MA1 (out), 107 MA2 (out), 112 MA5 (out), 113 MA6 (out), 114 MA7 (out), 127 GP2 (io), 128 GP3 (io), 129 GP4 (io), 130 GP5 (io), 131 GP1DUP (io), 132 PHYLNK (in), 133 SPD100 (in), 134 SPD1000 (in), 137 REF125 (in), 138 MDC (out), 139 MDIO (io), 140 GTXCLK/TXPMACLK (out), 141 TXD0/MA8 (out), 141 MA8/TXD0 (out), 142 TXD1/MA9 (out), 142 MA9/TXD1 (out), 145 TXD2/MA10 (out), 145 MA10/TXD2 (out), 146 TXD3/MA11 (out), 146 MA11/TXD3 (out), 147 TXD4/MA12 (out), 147 MA12/TXD4 (out), 148 TXD5/MA13 (out), 148 MA13/TXD5 (out), 151 TXD6/MA14 (out), 151 MA14/TXD6 (out), 152 TXD7/MA15 (out), 152 MA15/TXD7 (out), 153 TXEN/TXD8 (out), 154 TXER/TXD9 (out), 155 TXCLK/RXPMACLK0 (in), 156 RXCLK/RXPMACLK1 (in), 157 RXD0 (in), 158 RXD1 (in), 159 RXD2 (in), 160 RXD3 (in), 162 RXD4 (in), 164 RXD5 (in), 165 RXD6 (in), 166 RXD7 (in), 167 RXDV/RXD8 (in), 168 RXER/RDX9 (in), 169 CRS/SIGDET (in), 170 COL (in), 171 RXEN (out), 172 PHYRSTN (out), 177 TRSTN (in), 178 TCK (in), 179 TMS (in), 180 TDO (out), 181 TDI (in)

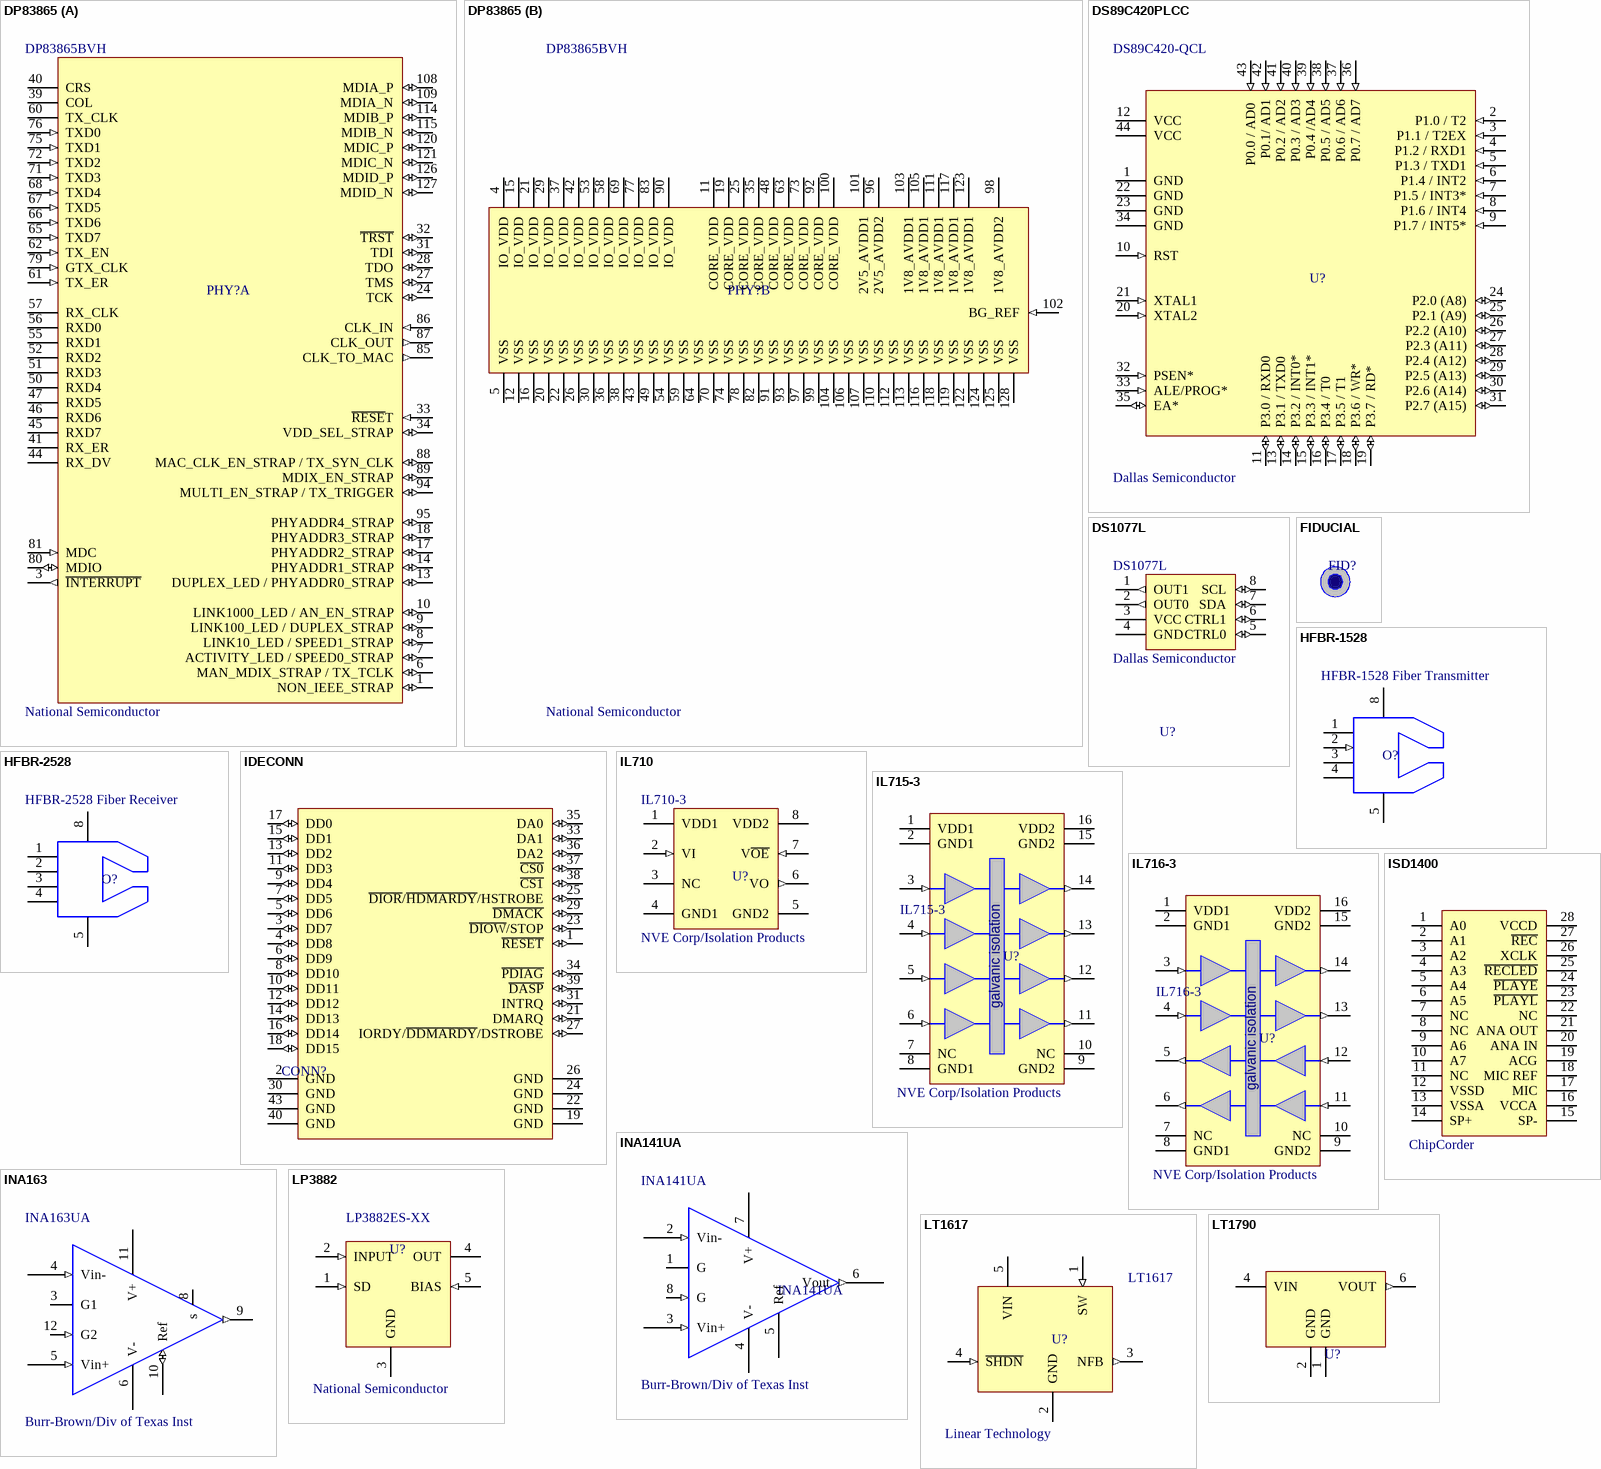
[diagram p5: symbols DP83865 to LT1790]

## DP83865
designator PHY?, comment DP83865BVH  Vendor: National Semiconductor
National Semiconductor Gigabit PHY
footprint PQFP128RECT
part A pins: 1 NON_IEEE_STRAP (io), 3 ~{INTERRUPT} (out), 6 MAN_MDIX_STRAP / TX_TCLK (io), 7 ACTIVITY_LED / SPEED0_STRAP (io), 8 LINK10_LED / SPEED1_STRAP (io), 9 LINK100_LED / DUPLEX_STRAP (io), 10 LINK1000_LED / AN_EN_STRAP (io), 13 DUPLEX_LED / PHYADDR0_STRAP (io), 14 PHYADDR1_STRAP (io), 17 PHYADDR2_STRAP (io), 18 PHYADDR3_STRAP (io), 24 TCK (io), 27 TMS (io), 28 TDO (io), 31 TDI (io), 32 ~{TRST} (io), 33 ~{RESE}T (in), 34 VDD_SEL_STRAP (io), 39 COL (hiz), 40 CRS (hiz), 41 RX_ER (hiz), 44 RX_DV (hiz), 45 RXD7 (hiz), 46 RXD6 (hiz), 47 RXD5 (hiz), 50 RXD4 (hiz), 51 RXD3 (hiz), 52 RXD2 (hiz), 55 RXD1 (hiz), 56 RXD0 (hiz), 57 RX_CLK (hiz), 60 TX_CLK (hiz), 61 TX_ER (in), 62 TX_EN (in), 65 TXD7 (in), 66 TXD6 (in), 67 TXD5 (in), 68 TXD4 (in), 71 TXD3 (in), 72 TXD2 (in), 75 TXD1 (in), 76 TXD0 (in), 79 GTX_CLK (in), 80 MDIO (io), 81 MDC (in), 85 CLK_TO_MAC (out), 86 CLK_IN (in), 87 CLK_OUT (out), 88 MAC_CLK_EN_STRAP / TX_SYN_CLK (io), 89 MDIX_EN_STRAP (io), 94 MULTI_EN_STRAP / TX_TRIGGER (io), 95 PHYADDR4_STRAP (io), 108 MDIA_P (io), 109 MDIA_N (io), 114 MDIB_P (io), 115 MDIB_N (io), 120 MDIC_P (io), 121 MDIC_N (io), 126 MDID_P (io), 127 MDID_N (io)
part B pins: 4 IO_VDD (power), 5 VSS (power), 11 CORE_VDD (power), 12 VSS (power), 15 IO_VDD (power), 16 VSS (power), 19 CORE_VDD (power), 20 VSS (power), 21 IO_VDD (power), 22 VSS (power), 25 CORE_VDD (power), 26 VSS (power), 29 IO_VDD (power), 30 VSS (power), 35 CORE_VDD (power), 36 VSS (power), 37 IO_VDD (power), 38 VSS (power), 42 IO_VDD (power), 43 VSS (power), 48 CORE_VDD (power), 49 VSS (power), 53 IO_VDD (power), 54 VSS (power), 58 IO_VDD (power), 59 VSS (power), 63 CORE_VDD (power), 64 VSS (power), 69 IO_VDD (power), 70 VSS (power), 73 CORE_VDD (power), 74 VSS (power), 77 IO_VDD (power), 78 VSS (power), 82 VSS (power), 83 IO_VDD (power), 90 IO_VDD (power), 91 VSS (power), 92 CORE_VDD (power), 93 VSS (power), 96 2V5_AVDD2 (power), 97 VSS (power), 98 1V8_AVDD2 (power), 99 VSS (power), 100 CORE_VDD (power), 101 2V5_AVDD1 (power), 102 BG_REF (in), 103 1V8_AVDD1 (power), 104 VSS (power), 105 1V8_AVDD1 (power), 106 VSS (power), 107 VSS (power), 110 VSS (power), 111 1V8_AVDD1 (power), 112 VSS (power), 113 VSS (power), 116 VSS (power), 117 1V8_AVDD1 (power), 118 VSS (power), 119 VSS (power), 122 VSS (power), 123 1V8_AVDD1 (power), 124 VSS (power), 125 VSS (power), 128 VSS (power)

## DS89C420PLCC
designator U?, comment DS89C420-QCL  Vendor: Dallas Semiconductor
Hyper-8051 33MHz uP in PLCC
footprint PLCC_SOCKET
pins: 1 GND (power), 2 P1.0 / T2 (in), 3 P1.1 / T2EX (in), 4 P1.2 / RXD1 (in), 5 P1.3 / TXD1 (in), 6 P1.4 / INT2 (in), 7 P1.5 / INT3* (in), 8 P1.6 / INT4 (in), 9 P1.7 / INT5* (in), 10 RST (in), 11 P3.0 / RXD0 (io), 12 VCC (power), 13 P3.1 / TXD0 (io), 14 P3.2 / INT0* (io), 15 P3.3 / INT1* (io), 16 P3.4 / T0 (io), 17 P3.5 / T1 (io), 18 P3.6 / WR* (io), 19 P3.7 / RD* (io), 20 XTAL2 (in), 21 XTAL1 (in), 22 GND (power), 23 GND (power), 24 P2.0 (A8) (io), 25 P2.1 (A9) (io), 26 P2.2 (A10) (io), 27 P2.3 (A11) (io), 28 P2.4 (A12) (io), 29 P2.5 (A13) (io), 30 P2.6 (A14) (io), 31 P2.7 (A15) (io), 32 PSEN* (in), 33 ALE/PROG* (in), 34 GND (power), 35 EA* (io), 36 P0.7 / AD7 (in), 37 P0.6 / AD6 (in), 38 P0.5 / AD5 (in), 39 P0.4 /AD4 (in), 40 P0.3 / AD3 (in), 41 P0.2 / AD2 (in), 42 P0.1/ AD1 (in), 43 P0.0 / AD0  (in), 44 VCC (power)

## DS1077L
designator U?  Vendor: Dallas Semiconductor
Programmable oscillator
footprint S08
pins: 1 OUT1 (out), 2 OUT0 (out), 3 VCC (power), 4 GND (power), 5 CTRL0 (io), 6 CTRL1 (io), 7 SDA (io), 8 SCL (io)

## FIDUCIAL
designator FID?  (value not drawn)
Fiducial
footprint FIDUCIAL (Fiducial footprint as recommended by PCBpro)

## HFBR-1528
designator O?, comment HFBR-1528 Fiber Transmitter
Low-cost fiber transmitter; Vendor: Agilent
footprint HPVL
pins: 1 (power), 2 (in), 3 (power), 4 (power), 5 (power), 8 (power)

## HFBR-2528
designator O?, comment HFBR-2528 Fiber Receiver
Low-cost fiber receiver; Vendor: Agilent
footprint HPVL
pins: 1 (power), 2 (power), 3 (power), 4 (power), 5 (power), 8 (power)

## IDECONN
designator CONN?
footprint 2.5IDE
pins: 1 ~{RESET} (io), 2 GND (power), 3 DD7 (io), 4 DD8 (io), 5 DD6 (io), 6 DD9 (io), 7 DD5 (io), 8 DD10 (io), 9 DD4 (io), 10 DD11 (io), 11 DD3 (io), 12 DD12 (io), 13 DD2 (io), 14 DD13 (io), 15 DD1 (io), 16 DD14 (io), 17 DD0 (io), 18 DD15 (io), 19 GND (power), 21 DMARQ (io), 22 GND (power), 23 ~{DIOW}/STOP (io), 24 GND (power), 25 ~{DIOR}/~{HDMARDY}/HSTROBE (io), 26 GND (power), 27 IORDY/~{DDMARDY}/DSTROBE (io), 29 ~{DMACK} (io), 30 GND (power), 31 INTRQ (io), 33 DA1 (io), 34 ~{PDIAG} (io), 35 DA0 (io), 36 DA2 (io), 37 ~{CS0} (io), 38 ~{CS1} (io), 39 ~{DASP} (io), 40 GND (power), 43 GND (power)

## IL710
designator U?, comment IL710-3  Vendor: NVE Corp/Isolation Products
High Speed Digital Coupler
footprint SO-8
pins: 1 VDD1 (power), 2 VI (in), 3 NC, 4 GND1 (power), 5 GND2 (power), 6 VO (out), 7 V~{OE} (in), 8 VDD2 (power)

## IL715-3
designator U?  Vendor: NVE Corp/Isolation Products
High speed digital coupler
footprint SO-G16/D10
pins: 1 VDD1 (power), 2 GND1 (power), 3 IN1 (in), 4 IN2 (in), 5 IN3 (in), 6 IN4 (in), 7 NC, 8 GND1 (power), 9 GND2 (power), 10 NC, 11 OUT4 (out), 12 OUT3 (out), 13 OUT2 (out), 14 OUT1 (out), 15 GND2 (power), 16 VDD2 (power)
text: galvanic isolation

## IL716-3
designator U?  Vendor: NVE Corp/Isolation Products
High speed digital coupler
footprint SO-G16/D10
pins: 1 VDD1 (power), 2 GND1 (power), 3 IN1 (in), 4 IN2 (in), 5 OUT3 (out), 6 OUT4 (out), 7 NC, 8 GND1 (power), 9 GND2 (power), 10 NC, 11 IN4 (in), 12 IN3 (in), 13 OUT2 (out), 14 OUT1 (out), 15 GND2 (power), 16 VDD2 (power)
text: galvanic isolation

## INA141UA
designator INA141UA  Vendor: Burr-Brown/Div of Texas Inst
Burr-brown INA141 G=10, 100 Instrumentation Amp
footprint SO8
pins: 1 G, 2 Vin- (in), 3 Vin+ (in), 4 V- (power), 5 Ref, 6 Vout (out), 7 V+ (power), 8 G (in)

## INA163
designator ?, comment INA163UA  Vendor: Burr-Brown/Div of Texas Inst
IC LOW NOISE INSTR AMP 14-SO
pins: 3 G1, 4 Vin- (in), 5 Vin+ (in), 6 V- (power), 8 s, 9 Vout (out), 10 Ref (io), 11 V+ (power), 12 G2 (in)

## ISD1400
designator ?  Vendor: ChipCorder
pins: 1 A0, 2 A1, 3 A2, 4 A3, 5 A4, 6 A5, 7 NC, 8 NC, 9 A6, 10 A7, 11 NC, 12 VSSD, 13 VSSA, 14 SP+, 15 SP-, 16 VCCA, 17 MIC, 18 MIC REF, 19 ACG, 20 ANA IN, 21 ANA OUT, 22 NC, 23 ~{PLAYL}, 24 ~{PLAYE}, 25 ~{RECLED}, 26 XCLK, 27 ~{REC}, 28 VCCD

## LP3882
designator U?, comment LP3882ES-XX  Vendor: National Semiconductor
1.5 A LDO Reg
footprint TO-263-5 (TO263-5 National Semi Pkg TS5B)
pins: 1 SD (in), 2 INPUT (in), 3 GND (power), 4 OUT (power), 5 BIAS (in)

## LT1617
designator U?  Vendor: Linear Technology
Micropower Inverting DC/DC converter
footprint SO-G5/P.95
pins: 1 SW (in), 2 GND (power), 3 NFB (out), 4 ~{SHDN} (in), 5 VIN (power)

## LT1790
designator U?
Micropower SOT-23 Low Dropout Reference Family; Vendor: Linear Technology
footprint LTI SOT-23 ThinSOT
pins: 1 GND (power), 2 GND (power), 4 VIN (power), 6 VOUT (out)

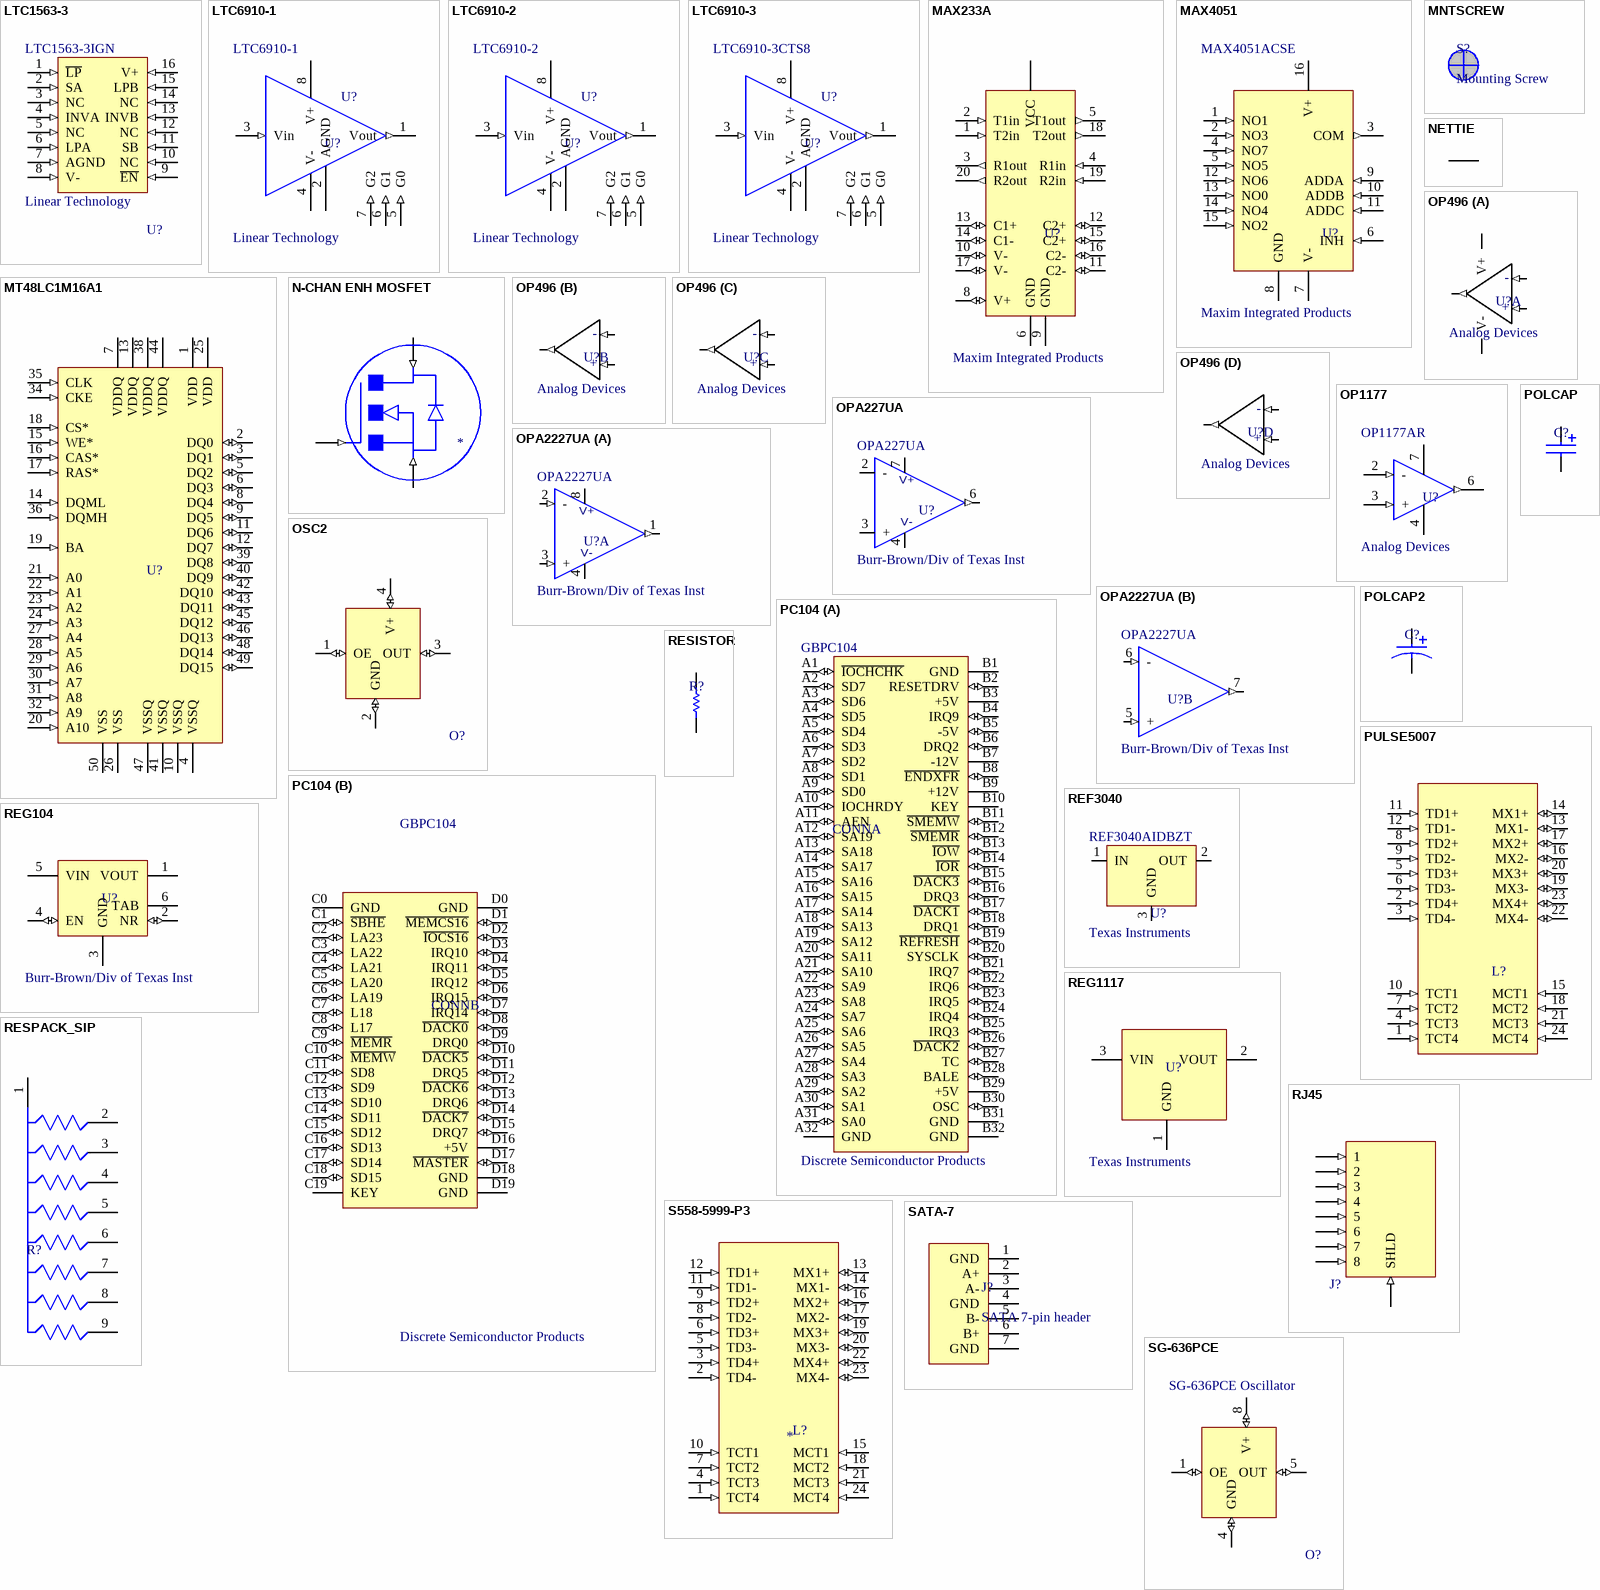
[diagram p6: symbols LTC1563-3 to SG-636PCE]

## LTC1563-3
designator U?, comment LTC1563-3IGN  Vendor: Linear Technology
4-th order linear continuous filter
footprint SSO-G16/X.4
pins: 1 ~{LP} (in), 2 SA (in), 3 NC (in), 4 INVA (in), 5 NC (in), 6 LPA (in), 7 AGND (in), 8 V- (in), 9 ~{EN} (in), 10 NC (in), 11 SB (in), 12 NC (in), 13 INVB (in), 14 NC (in), 15 LPB (in), 16 V+ (in)

## LTC6910-1
designator U?  Vendor: Linear Technology
LTI Digitally Controlled Programmabe Gain Amp
footprint TSOT-23-8
pins: 1 Vout (out), 2 AGND (power), 3 Vin (in), 4 V- (power), 5 G0 (in), 6 G1 (in), 7 G2 (in), 8 V+ (power)

## LTC6910-2
designator U?  Vendor: Linear Technology
LTI Digitally Controlled Programmabe Gain Amp
footprint TSOT-23-8
pins: 1 Vout (out), 2 AGND (power), 3 Vin (in), 4 V- (power), 5 G0 (in), 6 G1 (in), 7 G2 (in), 8 V+ (power)

## LTC6910-3
designator U?, comment LTC6910-3CTS8  Vendor: Linear Technology
LTI Digitally Controlled Programmabe Gain Amp
footprint TSOT-23-8
pins: 1 Vout (out), 2 AGND (power), 3 Vin (in), 4 V- (power), 5 G0 (in), 6 G1 (in), 7 G2 (in), 8 V+ (power)

## MAX233A
designator U?  Vendor: Maxim Integrated Products
no-capacitor RS-232 Line Driver
footprint SO20W
pins: 1 T2in (in), 2 T1in (in), 3 R1out (out), 4 R1in (in), 5 T1out (out), 6 GND (power), 7 VCC (power), 8 V+ (io), 9 GND (power), 10 V- (io), 11 C2- (io), 12 C2+ (io), 13 C1+ (io), 14 C1- (io), 15 C2+ (io), 16 C2- (io), 17 V- (io), 18 T2out (out), 19 R2in (in), 20 R2out (out)

## MAX4051
designator U?, comment MAX4051ACSE  Vendor: Maxim Integrated Products
1:8 analog Mux, up to +-5V
footprint SO-G16/Z7.45
pins: 1 NO1 (in), 2 NO3 (in), 3 COM (out), 4 NO7 (in), 5 NO5 (in), 6 INH (in), 7 V- (power), 8 GND (power), 9 ADDA (in), 10 ADDB (in), 11 ADDC (in), 12 NO6 (in), 13 NO0 (in), 14 NO4 (in), 15 NO2 (in), 16 V+ (power)

## MNTSCREW
designator S?, comment Mounting Screw
footprint SCREW6-32 (6-32 screw)

## MT48LC1M16A1
designator U?
Micron 16 Mb: x16 SDRAM
footprint TSOP-50/0.8W
pins: 1 VDD (power), 2 DQ0 (io), 3 DQ1 (io), 4 VSSQ (power), 5 DQ2 (io), 6 DQ3 (io), 7 VDDQ (power), 8 DQ4 (io), 9 DQ5 (io), 10 VSSQ (power), 11 DQ6 (io), 12 DQ7 (io), 13 VDDQ (power), 14 DQML (in), 15 WE* (in), 16 CAS* (in), 17 RAS* (in), 18 CS* (in), 19 BA (in), 20 A10 (in), 21 A0 (in), 22 A1 (in), 23 A2 (in), 24 A3 (in), 25 VDD (power), 26 VSS (power), 27 A4 (in), 28 A5 (in), 29 A6 (in), 30 A7 (in), 31 A8 (in), 32 A9 (in), 34 CKE (in), 35 CLK (in), 36 DQMH (in), 38 VDDQ (power), 39 DQ8 (io), 40 DQ9 (io), 41 VSSQ (power), 42 DQ10 (io), 43 DQ11 (io), 44 VDDQ (power), 45 DQ12 (io), 46 DQ13 (io), 47 VSSQ (power), 48 DQ14 (io), 49 DQ15 (io), 50 VSS (power)

## N-CHAN ENH MOSFET
designator *
footprint MSOP8
pins: 1 S (in), 2 S (in), 3 S (in), 4 G (in), 5 D (in), 6 D (in), 7 D (in), 8 D (in)

## NETTIE
designator TIE?  (net tie, no BOM)
Basic Net Tie
pins: 1, 2

## OP496
designator U?, comment Vendor: Analog Devices  (hidden comment: OP496GS)
quad RRIO OA
footprint SO-G14
part A pins: 1 OUTA (out), 2 -INA (in), 3 +INA (in), 4 V+ (power), 11 V- (power)
part B pins: 5 +INB (in), 6 -INB (in), 7 OUTB (out)
part C pins: 8 OUTC (out), 9 -INC (in), 10 +INC (in)
part D pins: 12 +IND (in), 13 -IND (in), 14 OUTD (out)
part A text: -; +
part B text: -; +
part C text: -; +
part D text: -; +

## OP1177
designator U?, comment OP1177AR  Vendor: Analog Devices
Precision Low Noise, Low Input Bias Current Operational Amplifier
footprint SO-G8/X.6
pins: 2 - (in), 3 + (in), 4 -Vs (power), 6 Out (out), 7 +Vs (power)

## OPA227UA
designator U?  Vendor: Burr-Brown/Div of Texas Inst
footprint SO-G8/D5.1
pins: 2 -, 3 +, 4 V- (power), 6 Vout (out), 7 V+ (power)

## OPA2227UA
designator U?  Vendor: Burr-Brown/Div of Texas Inst
Dual High Precision Op-Amp
footprint SO-8
part A pins: 1 Vout (out), 2 - (in), 3 + (in), 4 V- (power), 8 V+ (power)
part B pins: 5 + (in), 6 - (in), 7 Vout (out)

## OSC2
designator O?
ECS SMD Oscillator, ECS-3953M
footprint ECS-3953M (ECS SMD CLOCK OSCILLATOR)
pins: 1 OE (io), 2 GND (io), 3 OUT (io), 4 V+ (io)

## PC104
designator CONN, comment GBPC104  Vendor: Discrete Semiconductor Products
PC104 CONNECTOR
footprint PC104
part A pins: A1 ~{IOCHCHK} (io), A2 SD7 (io), A3 SD6 (io), A4 SD5 (io), A5 SD4 (io), A6 SD3 (io), A7 SD2 (io), A8 SD1 (io), A9 SD0 (io), A10 IOCHRDY (io), A11 AEN (io), A12 SA19 (io), A13 SA18 (io), A14 SA17 (io), A15 SA16 (io), A16 SA15 (io), A17 SA14 (io), A18 SA13 (io), A19 SA12 (io), A20 SA11 (io), A21 SA10 (io), A22 SA9 (io), A23 SA8 (io), A24 SA7 (io), A25 SA6 (io), A26 SA5 (io), A27 SA4 (io), A28 SA3 (io), A29 SA2 (io), A30 SA1 (io), A31 SA0 (io), A32 GND (power), B1 GND (power), B2 RESETDRV (io), B3 +5V (power), B4 IRQ9 (io), B5 -5V (io), B6 DRQ2 (io), B7 -12V (power), B8 ~{ENDXFR} (io), B9 +12V (power), B10 KEY, B11 ~{SMEMW} (io), B12 ~{SMEMR} (io), B13 ~{IOW} (io), B14 ~{IOR} (io), B15 ~{DACK3} (io), B16 DRQ3 (io), B17 ~{DACK1} (io), B18 DRQ1 (io), B19 ~{REFRESH} (io), B20 SYSCLK (io), B21 IRQ7 (io), B22 IRQ6 (io), B23 IRQ5 (io), B24 IRQ4 (io), B25 IRQ3 (io), B26 ~{DACK2} (io), B27 TC (io), B28 BALE (io), B29 +5V (power), B30 OSC (io), B31 GND (power), B32 GND (power)
part B pins: C0 GND (power), C1 ~{SBHE} (io), C2 LA23 (io), C3 LA22 (io), C4 LA21 (io), C5 LA20 (io), C6 LA19 (io), C7 L18 (io), C8 L17 (io), C9 ~{MEMR} (io), C10 ~{MEMW} (io), C11 SD8 (io), C12 SD9 (io), C13 SD10 (io), C14 SD11 (io), C15 SD12 (io), C16 SD13 (io), C17 SD14 (io), C18 SD15 (io), C19 KEY, D0 GND (power), D1 ~{MEMCS16} (io), D2 ~{IOCS16} (io), D3 IRQ10 (io), D4 IRQ11 (io), D5 IRQ12 (io), D6 IRQ15 (io), D7 IRQ14 (io), D8 ~{DACK0} (io), D9 DRQ0 (io), D10 ~{DACK5} (io), D11 DRQ5 (io), D12 ~{DACK6} (io), D13 DRQ6 (io), D14 ~{DACK7} (io), D15 DRQ7 (io), D16 +5V (power), D17 ~{MASTER} (io), D18 GND (power), D19 GND (power)

## POLCAP
designator C?
Standard Capacitor; Type: X7R
footprint 3216 (Standard-Sized 3216 Polarized Leadless Cap)
pins: 1, 2

## POLCAP2
designator C?
Standard Capacitor; Type: Tantalum
footprint 3216 (Standard-Sized 3216 Polarized Leadless Cap)
pins: 1, 2

## PULSE5007
designator L?
Pulse 1000base-T magnetics
footprint PULSEH5007
pins: 1 TCT4 (in), 2 TD4+ (in), 3 TD4- (in), 4 TCT3 (in), 5 TD3+ (in), 6 TD3- (in), 7 TCT2 (in), 8 TD2+ (in), 9 TD2- (in), 10 TCT1 (in), 11 TD1+ (in), 12 TD1- (in), 13 MX1- (io), 14 MX1+ (io), 15 MCT1 (in), 16 MX2- (io), 17 MX2+ (io), 18 MCT2 (in), 19 MX3- (io), 20 MX3+ (io), 21 MCT3 (in), 22 MX4- (io), 23 MX4+ (io), 24 MCT4 (in)

## REF3040
designator U?, comment REF3040AIDBZT  Vendor: Texas Instruments
4.096 V Voltage Ref
footprint DBZ
pins: 1 IN (power), 2 OUT (power), 3 GND (power)

## REG104
designator U?  Vendor: Burr-Brown/Div of Texas Inst
BB DMOS 1A Low-Dropout Regulator
footprint DDPAK-5
pins: 1 VOUT (power), 2 NR (io), 3 GND (power), 4 EN (io), 5 VIN (power), 6 TAB

## REG1117
designator U?  Vendor: Texas Instruments
LDO Regulator
footprint REG1117-KTT (KTT package for TI voltage Reg)
pins: 1 GND (power), 2 VOUT (power), 3 VIN (power)

## RESISTOR
designator R?
Standard Passive Resistor
footprint 0603 (Standard-sized 0603 Passive)
pins: 1, 2

## RESPACK_SIP
designator R?
Resistor pack
footprint SIP-10
pins: 1 20, 2 20, 3 20, 4 20, 5 20, 6 20, 7 20, 8 20, 9 20

## RJ45
designator J?
RJ-45 connector
footprint MOLEXRJ45_44050-0007
pins: 1 (in), 2 (in), 3 (in), 4 (in), 5 (in), 6 (in), 7 (in), 8 (in), 9 SHLD (in)

## S558-5999-P3
designator L?
BEL 1000base-T magnetics S588-5999-P3
footprint S558-5999-P3
pins: 1 TCT4 (in), 2 TD4- (in), 3 TD4+ (in), 4 TCT3 (in), 5 TD3- (in), 6 TD3+ (in), 7 TCT2 (in), 8 TD2- (in), 9 TD2+ (in), 10 TCT1 (in), 11 TD1- (in), 12 TD1+ (in), 13 MX1+ (io), 14 MX1- (io), 15 MCT1 (in), 16 MX2+ (io), 17 MX2- (io), 18 MCT2 (in), 19 MX3+ (io), 20 MX3- (io), 21 MCT3 (in), 22 MX4+ (io), 23 MX4- (io), 24 MCT4 (in)

## SATA-7
designator J?, comment SATA 7-pin header
footprint MOLES 67800-5005 (SATA vertical PCB HEADER SMT)
pins: 1 GND, 2 A+, 3 A-, 4 GND, 5 B-, 6 B+, 7 GND

## SG-636PCE
designator O?, comment SG-636PCE Oscillator
Epson CMOS/TTL Oscillator; Vendor: Epson Electronics America Inc
footprint SG-531P
pins: 1 OE (io), 4 GND (io), 5 OUT (io), 8 V+ (io)

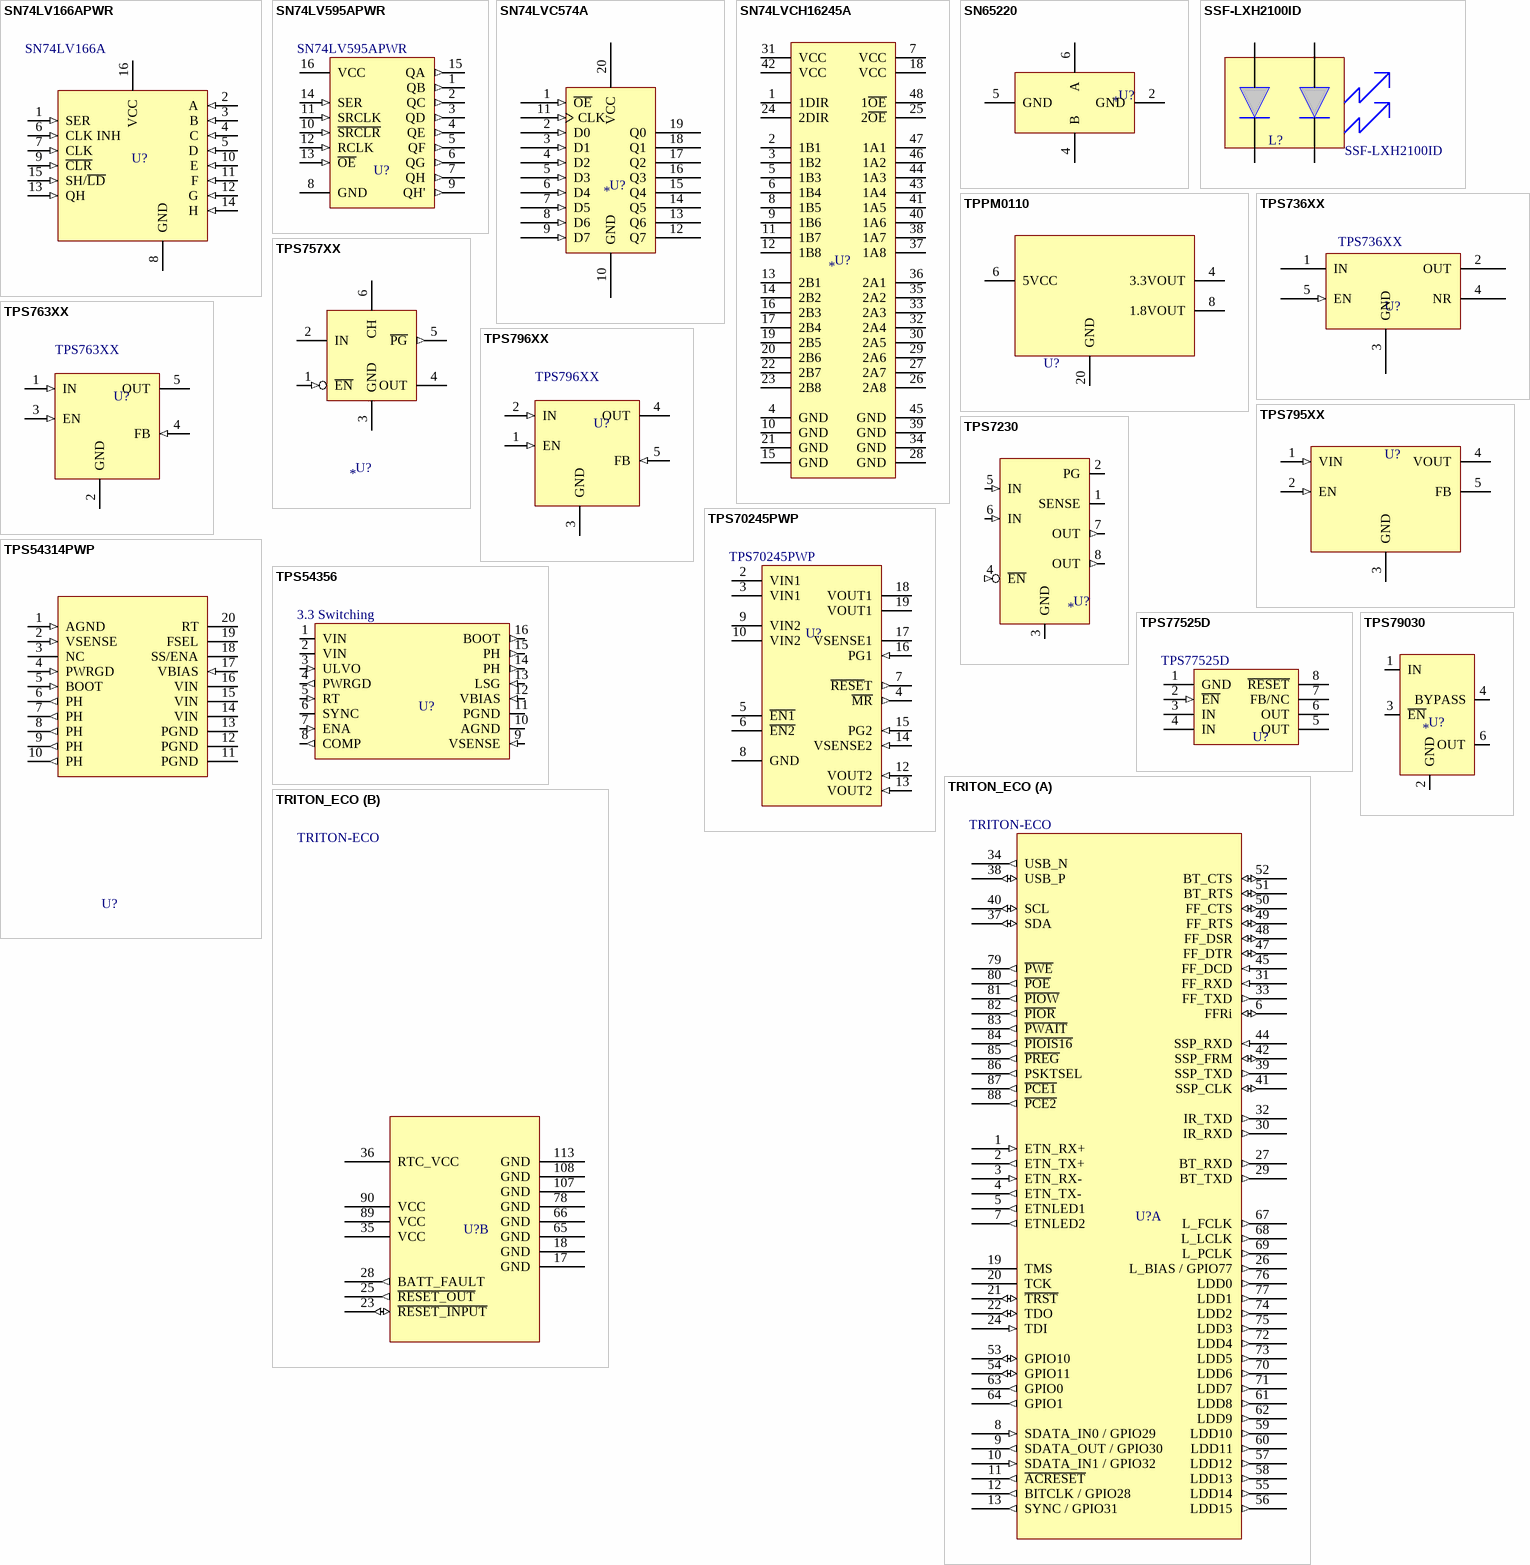
[diagram p7: symbols SN74LV166APWR to TRITON_ECO]

## SN74LV166APWR
designator U?, comment SN74LV166A
8-bit parallel-load shift register
footprint SSO-G16/X.4
pins: 1 SER (in), 2 A (in), 3 B (in), 4 C (in), 5 D (in), 6 CLK INH (in), 7 CLK (in), 8 GND (power), 9 ~{CLR} (in), 10 E (in), 11 F (in), 12 G (in), 13 QH (in), 14 H (in), 15 SH/~{LD} (in), 16 VCC (power)

## SN74LV595APWR
designator U?
8-bit shift register with 3-state output; Vendor: Texas Instruments
footprint SSO-G16/X.4
pins: 1 QB (out), 2 QC (out), 3 QD (out), 4 QE (out), 5 QF (out), 6 QG (out), 7 QH (out), 8 GND (power), 9 QH' (out), 10 ~{SRCLR} (in), 11 SRCLK (in), 12 RCLK (in), 13 ~{OE} (in), 14 SER (in), 15 QA (out), 16 VCC (power)

## SN74LVC574A
designator U?
Octal Transparent D-type Latch with 3-state output
footprint SO20W
pins: 1 ~{OE} (in), 2 D0 (in), 3 D1 (in), 4 D2 (in), 5 D3 (in), 6 D4 (in), 7 D5 (in), 8 D6 (in), 9 D7 (in), 10 GND (power), 11 CLK (in), 12 Q7 (hiz), 13 Q6 (hiz), 14 Q5 (hiz), 15 Q4 (hiz), 16 Q3 (hiz), 17 Q2 (hiz), 18 Q1 (hiz), 19 Q0 (hiz), 20 VCC (power)

## SN74LVCH16245A
designator U?
16-bit bus transceiver with 3-state outputs
footprint SSO-G48
pins: 1 1DIR, 2 1B1, 3 1B2, 4 GND (power), 5 1B3, 6 1B4, 7 VCC (power), 8 1B5, 9 1B6, 10 GND (power), 11 1B7, 12 1B8, 13 2B1, 14 2B2, 15 GND (power), 16 2B3, 17 2B4, 18 VCC (power), 19 2B5, 20 2B6, 21 GND (power), 22 2B7, 23 2B8, 24 2DIR, 25 2~{OE}, 26 2A8, 27 2A7, 28 GND (power), 29 2A6, 30 2A5, 31 VCC (power), 32 2A4, 33 2A3, 34 GND (power), 35 2A2, 36 2A1, 37 1A8, 38 1A7, 39 GND (power), 40 1A6, 41 1A5, 42 VCC (power), 43 1A4, 44 1A3, 45 GND (power), 46 1A2, 47 1A1, 48 1~{OE}

## SN65220
designator U?
Single USB transient suppressor
footprint DBV
pins: 2 GND (power), 4 B, 5 GND (power), 6 A

## SSF-LXH2100ID
designator L?
DUAL LED; Vendor: Lumex Opto/Components Inc
footprint LUMEX DUAL RT-ANG LED (Lumex Dual Right-angle LED holder for part SSF-LXH2100XX)
pins: 1 A1, 2, 3 A2, 4 C2

## TPPM0110
designator U?
Dual Low-Dropout Linear Regulator
footprint PowerPad PSOP20
pins: 4 3.3VOUT (power), 6 5VCC (power), 8 1.8VOUT (power), 20 GND (power)

## TPS736XX
designator U?
Cap-free NMOS 400 mA LDO
footprint SOT223-5/Simple (SOT-223 without large heatsink)
pins: 1 IN (power), 2 OUT (power), 3 GND (power), 4 NR, 5 EN (in)

## TPS757XX
designator U?
Fast-transient response 3 A low dropout regulators
footprint T0-263
pins: 1 ~{EN} (in), 2 IN (power), 3 GND (power), 4 OUT (power), 5 ~{PG} (out), 6 CH

## TPS763XX
designator U?
Low power 150 mA LDO
footprint DBV
pins: 1 IN (in), 2 GND (power), 3 EN (in), 4 FB (in), 5 OUT (power)

## TPS795XX
designator U?  (value not drawn)
TI Ultra-low-noise LDO
footprint SOT223-5/Simple (SOT-223 without large heatsink)
pins: 1 VIN (in), 2 EN (in), 3 GND (power), 4 VOUT (power), 5 FB

## TPS796XX
designator U?
Low noise high PSSR fast RF 1A LDO
footprint SOT223-5 (TI SOT223-5  (DCQ Package))
pins: 1 EN (in), 2 IN (in), 3 GND (power), 4 OUT (power), 5 FB (in)

## TPS7230
designator U?
TI Very Low-Dropout Voltage Regulator, +3V
pins: 1 SENSE (io), 2 PG (io), 3 GND (power), 4 ~{EN} (in), 5 IN (in), 6 IN (in), 7 OUT (out), 8 OUT (out)

## TPS54314PWP
designator U?
3-6V input 3A out Buck converter
footprint PWP PowerPad -20
pins: 1 AGND (in), 2 VSENSE (in), 3 NC, 4 PWRGD (in), 5 BOOT (in), 6 PH (out), 7 PH (out), 8 PH (out), 9 PH (out), 10 PH (out), 11 PGND (power), 12 PGND (power), 13 PGND (power), 14 VIN (power), 15 VIN (power), 16 VIN (power), 17 VBIAS (in), 18 SS/ENA, 19 FSEL, 20 RT, P0 (power) hidden to GND, P1 (power) hidden to GND, P2 (power) hidden to GND, P3 (power) hidden to GND, P4 (power) hidden to GND, P5 (power) hidden to GND, P6 (power) hidden to GND, P7 (power) hidden to GND, P8 (power) hidden to GND, P9 (power) hidden to GND, P10 (power) hidden to GND